# Altium schematic symbol library EFM32GG_Library.SchLib: 40 symbols (part 2 of 5)
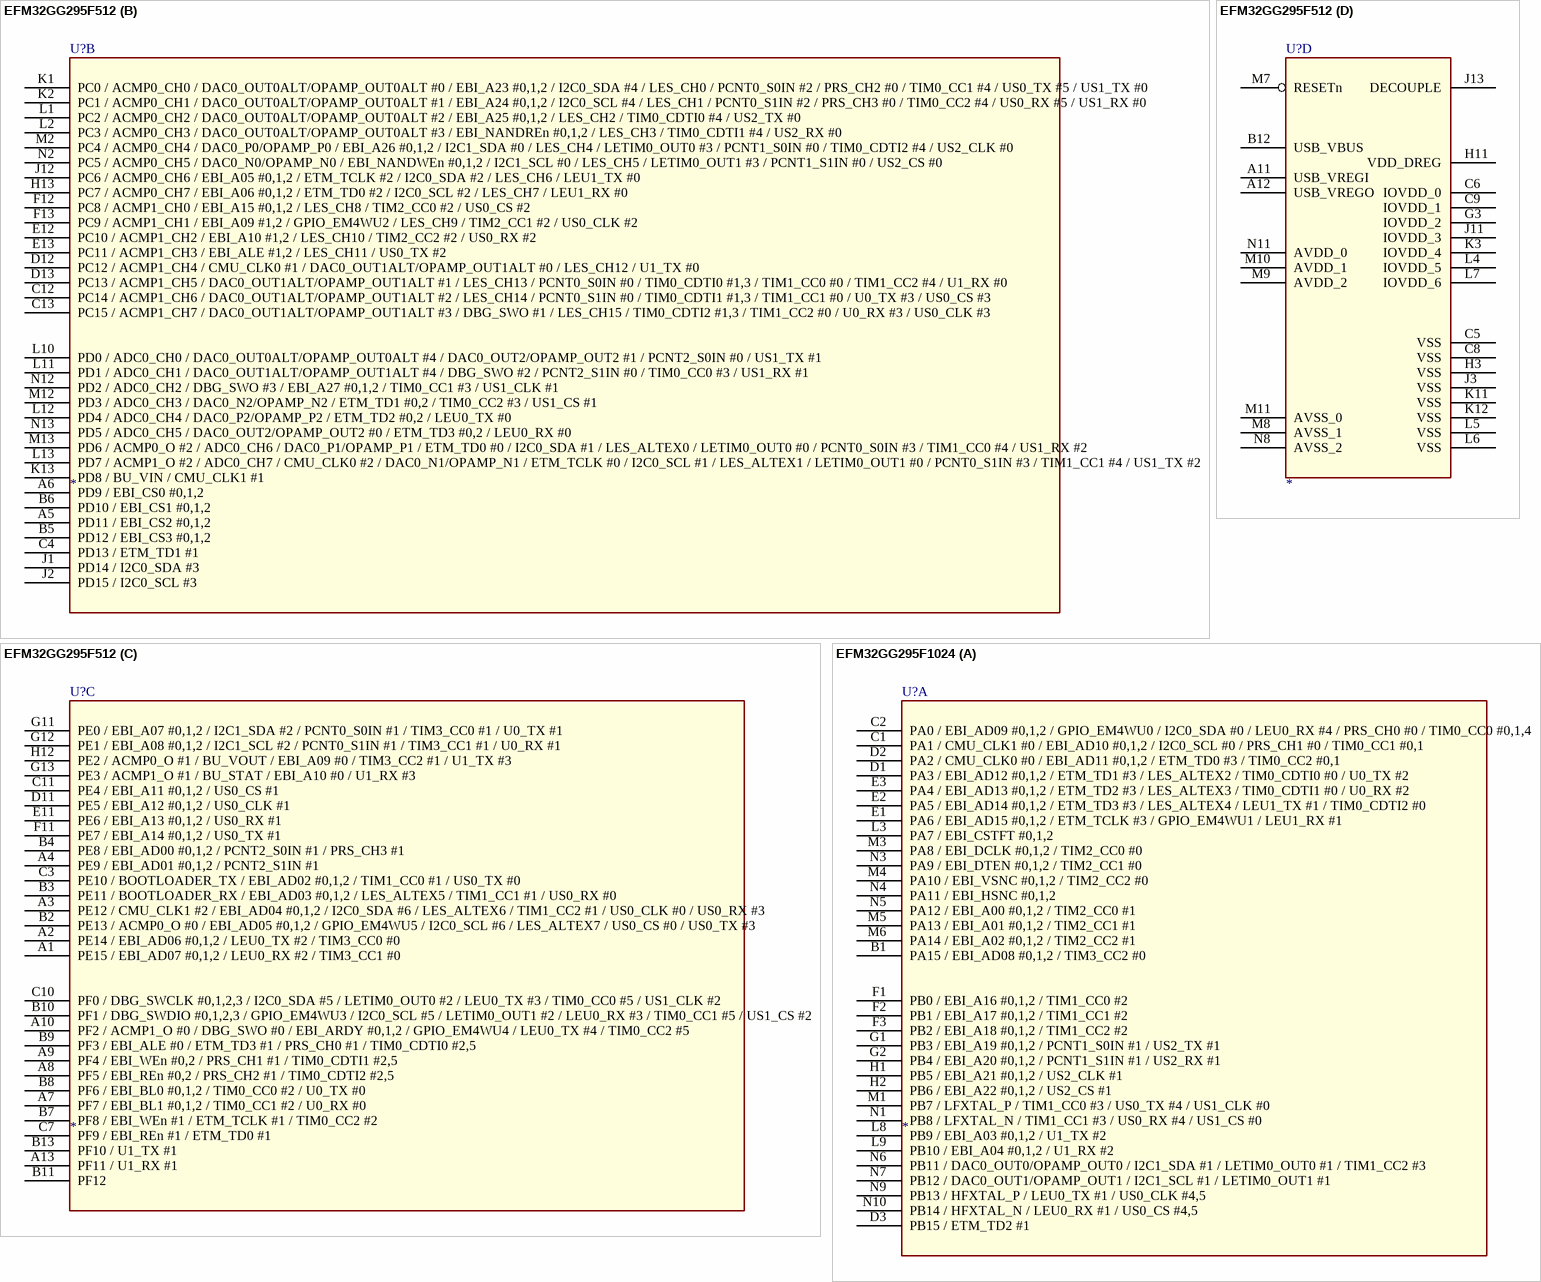
[diagram p40: symbols EFM32GG295F512 to EFM32GG295F1024]

## EFM32GG295F512
designator U?
part A pins: B1 PA15 / EBI_AD08 #0,1,2 / TIM3_CC2 #0, C1 PA1 / CMU_CLK1 #0 / EBI_AD10 #0,1,2 / I2C0_SCL #0 / PRS_CH1 #0 / TIM0_CC1 #0,1, C2 PA0 / EBI_AD09 #0,1,2 / GPIO_EM4WU0 / I2C0_SDA #0 / LEU0_RX #4 / PRS_CH0 #0 / TIM0_CC0 #0,1,4, D1 PA3 / EBI_AD12 #0,1,2 / ETM_TD1 #3 / LES_ALTEX2 / TIM0_CDTI0 #0 / U0_TX #2, D2 PA2 / CMU_CLK0 #0 / EBI_AD11 #0,1,2 / ETM_TD0 #3 / TIM0_CC2 #0,1, D3 PB15 / ETM_TD2 #1, E1 PA6 / EBI_AD15 #0,1,2 / ETM_TCLK #3 / GPIO_EM4WU1 / LEU1_RX #1, E2 PA5 / EBI_AD14 #0,1,2 / ETM_TD3 #3 / LES_ALTEX4 / LEU1_TX #1 / TIM0_CDTI2 #0, E3 PA4 / EBI_AD13 #0,1,2 / ETM_TD2 #3 / LES_ALTEX3 / TIM0_CDTI1 #0 / U0_RX #2, F1 PB0 / EBI_A16 #0,1,2 / TIM1_CC0 #2, F2 PB1 / EBI_A17 #0,1,2 / TIM1_CC1 #2, F3 PB2 / EBI_A18 #0,1,2 / TIM1_CC2 #2, G1 PB3 / EBI_A19 #0,1,2 / PCNT1_S0IN #1 / US2_TX #1, G2 PB4 / EBI_A20 #0,1,2 / PCNT1_S1IN #1 / US2_RX #1, H1 PB5 / EBI_A21 #0,1,2 / US2_CLK #1, H2 PB6 / EBI_A22 #0,1,2 / US2_CS #1, L3 PA7 / EBI_CSTFT #0,1,2, L8 PB9 / EBI_A03 #0,1,2 / U1_TX #2, L9 PB10 / EBI_A04 #0,1,2 / U1_RX #2, M1 PB7 / LFXTAL_P / TIM1_CC0 #3 / US0_TX #4 / US1_CLK #0, M3 PA8 / EBI_DCLK #0,1,2 / TIM2_CC0 #0, M4 PA10 / EBI_VSNC #0,1,2 / TIM2_CC2 #0, M5 PA13 / EBI_A01 #0,1,2 / TIM2_CC1 #1, M6 PA14 / EBI_A02 #0,1,2 / TIM2_CC2 #1, N1 PB8 / LFXTAL_N / TIM1_CC1 #3 / US0_RX #4 / US1_CS #0, N3 PA9 / EBI_DTEN #0,1,2 / TIM2_CC1 #0, N4 PA11 / EBI_HSNC #0,1,2, N5 PA12 / EBI_A00 #0,1,2 / TIM2_CC0 #1, N6 PB11 / DAC0_OUT0/OPAMP_OUT0 / I2C1_SDA #1 / LETIM0_OUT0 #1 / TIM1_CC2 #3, N7 PB12 / DAC0_OUT1/OPAMP_OUT1 / I2C1_SCL #1 / LETIM0_OUT1 #1, N9 PB13 / HFXTAL_P / LEU0_TX #1 / US0_CLK #4,5, N10 PB14 / HFXTAL_N / LEU0_RX #1 / US0_CS #4,5
part B pins: A5 PD11 / EBI_CS2 #0,1,2, A6 PD9 / EBI_CS0 #0,1,2, B5 PD12 / EBI_CS3 #0,1,2, B6 PD10 / EBI_CS1 #0,1,2, C4 PD13 / ETM_TD1 #1, C12 PC14 / ACMP1_CH6 / DAC0_OUT1ALT/OPAMP_OUT1ALT #2 / LES_CH14 / PCNT0_S1IN #0 / TIM0_CDTI1 #1,3 / TIM1_CC1 #0 / U0_TX #3 / US0_CS #3, C13 PC15 / ACMP1_CH7 / DAC0_OUT1ALT/OPAMP_OUT1ALT #3 / DBG_SWO #1 / LES_CH15 / TIM0_CDTI2 #1,3 / TIM1_CC2 #0 / U0_RX #3 / US0_CLK #3, D12 PC12 / ACMP1_CH4 / CMU_CLK0 #1 / DAC0_OUT1ALT/OPAMP_OUT1ALT #0 / LES_CH12 / U1_TX #0, D13 PC13 / ACMP1_CH5 / DAC0_OUT1ALT/OPAMP_OUT1ALT #1 / LES_CH13 / PCNT0_S0IN #0 / TIM0_CDTI0 #1,3 / TIM1_CC0 #0 / TIM1_CC2 #4 / U1_RX #0, E12 PC10 / ACMP1_CH2 / EBI_A10 #1,2 / LES_CH10 / TIM2_CC2 #2 / US0_RX #2, E13 PC11 / ACMP1_CH3 / EBI_ALE #1,2 / LES_CH11 / US0_TX #2, F12 PC8 / ACMP1_CH0 / EBI_A15 #0,1,2 / LES_CH8 / TIM2_CC0 #2 / US0_CS #2, F13 PC9 / ACMP1_CH1 / EBI_A09 #1,2 / GPIO_EM4WU2 / LES_CH9 / TIM2_CC1 #2 / US0_CLK #2, H13 PC7 / ACMP0_CH7 / EBI_A06 #0,1,2 / ETM_TD0 #2 / I2C0_SCL #2 / LES_CH7 / LEU1_RX #0, J1 PD14 / I2C0_SDA #3, J2 PD15 / I2C0_SCL #3, J12 PC6 / ACMP0_CH6 / EBI_A05 #0,1,2 / ETM_TCLK #2 / I2C0_SDA #2 / LES_CH6 / LEU1_TX #0, K1 PC0 / ACMP0_CH0 / DAC0_OUT0ALT/OPAMP_OUT0ALT #0 / EBI_A23 #0,1,2 / I2C0_SDA #4 / LES_CH0 / PCNT0_S0IN #2 / PRS_CH2 #0 / TIM0_CC1 #4 / US0_TX #5 / US1_TX #0, K2 PC1 / ACMP0_CH1 / DAC0_OUT0ALT/OPAMP_OUT0ALT #1 / EBI_A24 #0,1,2 / I2C0_SCL #4 / LES_CH1 / PCNT0_S1IN #2 / PRS_CH3 #0 / TIM0_CC2 #4 / US0_RX #5 / US1_RX #0, K13 PD8 / BU_VIN / CMU_CLK1 #1, L1 PC2 / ACMP0_CH2 / DAC0_OUT0ALT/OPAMP_OUT0ALT #2 / EBI_A25 #0,1,2 / LES_CH2 / TIM0_CDTI0 #4 / US2_TX #0, L2 PC3 / ACMP0_CH3 / DAC0_OUT0ALT/OPAMP_OUT0ALT #3 / EBI_NANDREn #0,1,2 / LES_CH3 / TIM0_CDTI1 #4 / US2_RX #0, L10 PD0 / ADC0_CH0 / DAC0_OUT0ALT/OPAMP_OUT0ALT #4 / DAC0_OUT2/OPAMP_OUT2 #1 / PCNT2_S0IN #0 / US1_TX #1, L11 PD1 / ADC0_CH1 / DAC0_OUT1ALT/OPAMP_OUT1ALT #4 / DBG_SWO #2 / PCNT2_S1IN #0 / TIM0_CC0 #3 / US1_RX #1, L12 PD4 / ADC0_CH4 / DAC0_P2/OPAMP_P2 / ETM_TD2 #0,2 / LEU0_TX #0, L13 PD7 / ACMP1_O #2 / ADC0_CH7 / CMU_CLK0 #2 / DAC0_N1/OPAMP_N1 / ETM_TCLK #0 / I2C0_SCL #1 / LES_ALTEX1 / LETIM0_OUT1 #0 / PCNT0_S1IN #3 / TIM1_CC1 #4 / US1_TX #2, M2 PC4 / ACMP0_CH4 / DAC0_P0/OPAMP_P0 / EBI_A26 #0,1,2 / I2C1_SDA #0 / LES_CH4 / LETIM0_OUT0 #3 / PCNT1_S0IN #0 / TIM0_CDTI2 #4 / US2_CLK #0, M12 PD3 / ADC0_CH3 / DAC0_N2/OPAMP_N2 / ETM_TD1 #0,2 / TIM0_CC2 #3 / US1_CS #1, M13 PD6 / ACMP0_O #2 / ADC0_CH6 / DAC0_P1/OPAMP_P1 / ETM_TD0 #0 / I2C0_SDA #1 / LES_ALTEX0 / LETIM0_OUT0 #0 / PCNT0_S0IN #3 / TIM1_CC0 #4 / US1_RX #2, N2 PC5 / ACMP0_CH5 / DAC0_N0/OPAMP_N0 / EBI_NANDWEn #0,1,2 / I2C1_SCL #0 / LES_CH5 / LETIM0_OUT1 #3 / PCNT1_S1IN #0 / US2_CS #0, N12 PD2 / ADC0_CH2 / DBG_SWO #3 / EBI_A27 #0,1,2 / TIM0_CC1 #3 / US1_CLK #1, N13 PD5 / ADC0_CH5 / DAC0_OUT2/OPAMP_OUT2 #0 / ETM_TD3 #0,2 / LEU0_RX #0
part C pins: A1 PE15 / EBI_AD07 #0,1,2 / LEU0_RX #2 / TIM3_CC1 #0, A2 PE14 / EBI_AD06 #0,1,2 / LEU0_TX #2 / TIM3_CC0 #0, A3 PE12 / CMU_CLK1 #2 / EBI_AD04 #0,1,2 / I2C0_SDA #6 / LES_ALTEX6 / TIM1_CC2 #1 / US0_CLK #0 / US0_RX #3, A4 PE9 / EBI_AD01 #0,1,2 / PCNT2_S1IN #1, A7 PF7 / EBI_BL1 #0,1,2 / TIM0_CC1 #2 / U0_RX #0, A8 PF5 / EBI_REn #0,2 / PRS_CH2 #1 / TIM0_CDTI2 #2,5, A9 PF4 / EBI_WEn #0,2 / PRS_CH1 #1 / TIM0_CDTI1 #2,5, A10 PF2 / ACMP1_O #0 / DBG_SWO #0 / EBI_ARDY #0,1,2 / GPIO_EM4WU4 / LEU0_TX #4 / TIM0_CC2 #5, A13 PF11 / U1_RX #1, B2 PE13 / ACMP0_O #0 / EBI_AD05 #0,1,2 / GPIO_EM4WU5 / I2C0_SCL #6 / LES_ALTEX7 / US0_CS #0 / US0_TX #3, B3 PE11 / BOOTLOADER_RX / EBI_AD03 #0,1,2 / LES_ALTEX5 / TIM1_CC1 #1 / US0_RX #0, B4 PE8 / EBI_AD00 #0,1,2 / PCNT2_S0IN #1 / PRS_CH3 #1, B7 PF8 / EBI_WEn #1 / ETM_TCLK #1 / TIM0_CC2 #2, B8 PF6 / EBI_BL0 #0,1,2 / TIM0_CC0 #2 / U0_TX #0, B9 PF3 / EBI_ALE #0 / ETM_TD3 #1 / PRS_CH0 #1 / TIM0_CDTI0 #2,5, B10 PF1 / DBG_SWDIO #0,1,2,3 / GPIO_EM4WU3 / I2C0_SCL #5 / LETIM0_OUT1 #2 / LEU0_RX #3 / TIM0_CC1 #5 / US1_CS #2, B11 PF12, B13 PF10 / U1_TX #1, C3 PE10 / BOOTLOADER_TX / EBI_AD02 #0,1,2 / TIM1_CC0 #1 / US0_TX #0, C7 PF9 / EBI_REn #1 / ETM_TD0 #1, C10 PF0 / DBG_SWCLK #0,1,2,3 / I2C0_SDA #5 / LETIM0_OUT0 #2 / LEU0_TX #3 / TIM0_CC0 #5 / US1_CLK #2, C11 PE4 / EBI_A11 #0,1,2 / US0_CS #1, D11 PE5 / EBI_A12 #0,1,2 / US0_CLK #1, E11 PE6 / EBI_A13 #0,1,2 / US0_RX #1, F11 PE7 / EBI_A14 #0,1,2 / US0_TX #1, G11 PE0 / EBI_A07 #0,1,2 / I2C1_SDA #2 / PCNT0_S0IN #1 / TIM3_CC0 #1 / U0_TX #1, G12 PE1 / EBI_A08 #0,1,2 / I2C1_SCL #2 / PCNT0_S1IN #1 / TIM3_CC1 #1 / U0_RX #1, G13 PE3 / ACMP1_O #1 / BU_STAT / EBI_A10 #0 / U1_RX #3, H12 PE2 / ACMP0_O #1 / BU_VOUT / EBI_A09 #0 / TIM3_CC2 #1 / U1_TX #3
part D pins: A11 USB_VREGI (power), A12 USB_VREGO (power), B12 USB_VBUS (power), C5 VSS (power), C6 IOVDD_0 (power), C8 VSS (power), C9 IOVDD_1 (power), G3 IOVDD_2 (power), H3 VSS (power), H11 VDD_DREG (power), J3 VSS (power), J11 IOVDD_3 (power), J13 DECOUPLE (power), K3 IOVDD_4 (power), K11 VSS (power), K12 VSS (power), L4 IOVDD_5 (power), L5 VSS (power), L6 VSS (power), L7 IOVDD_6 (power), M7 RESETn, M8 AVSS_1 (power), M9 AVDD_2 (power), M10 AVDD_1 (power), M11 AVSS_0 (power), N8 AVSS_2 (power), N11 AVDD_0 (power)

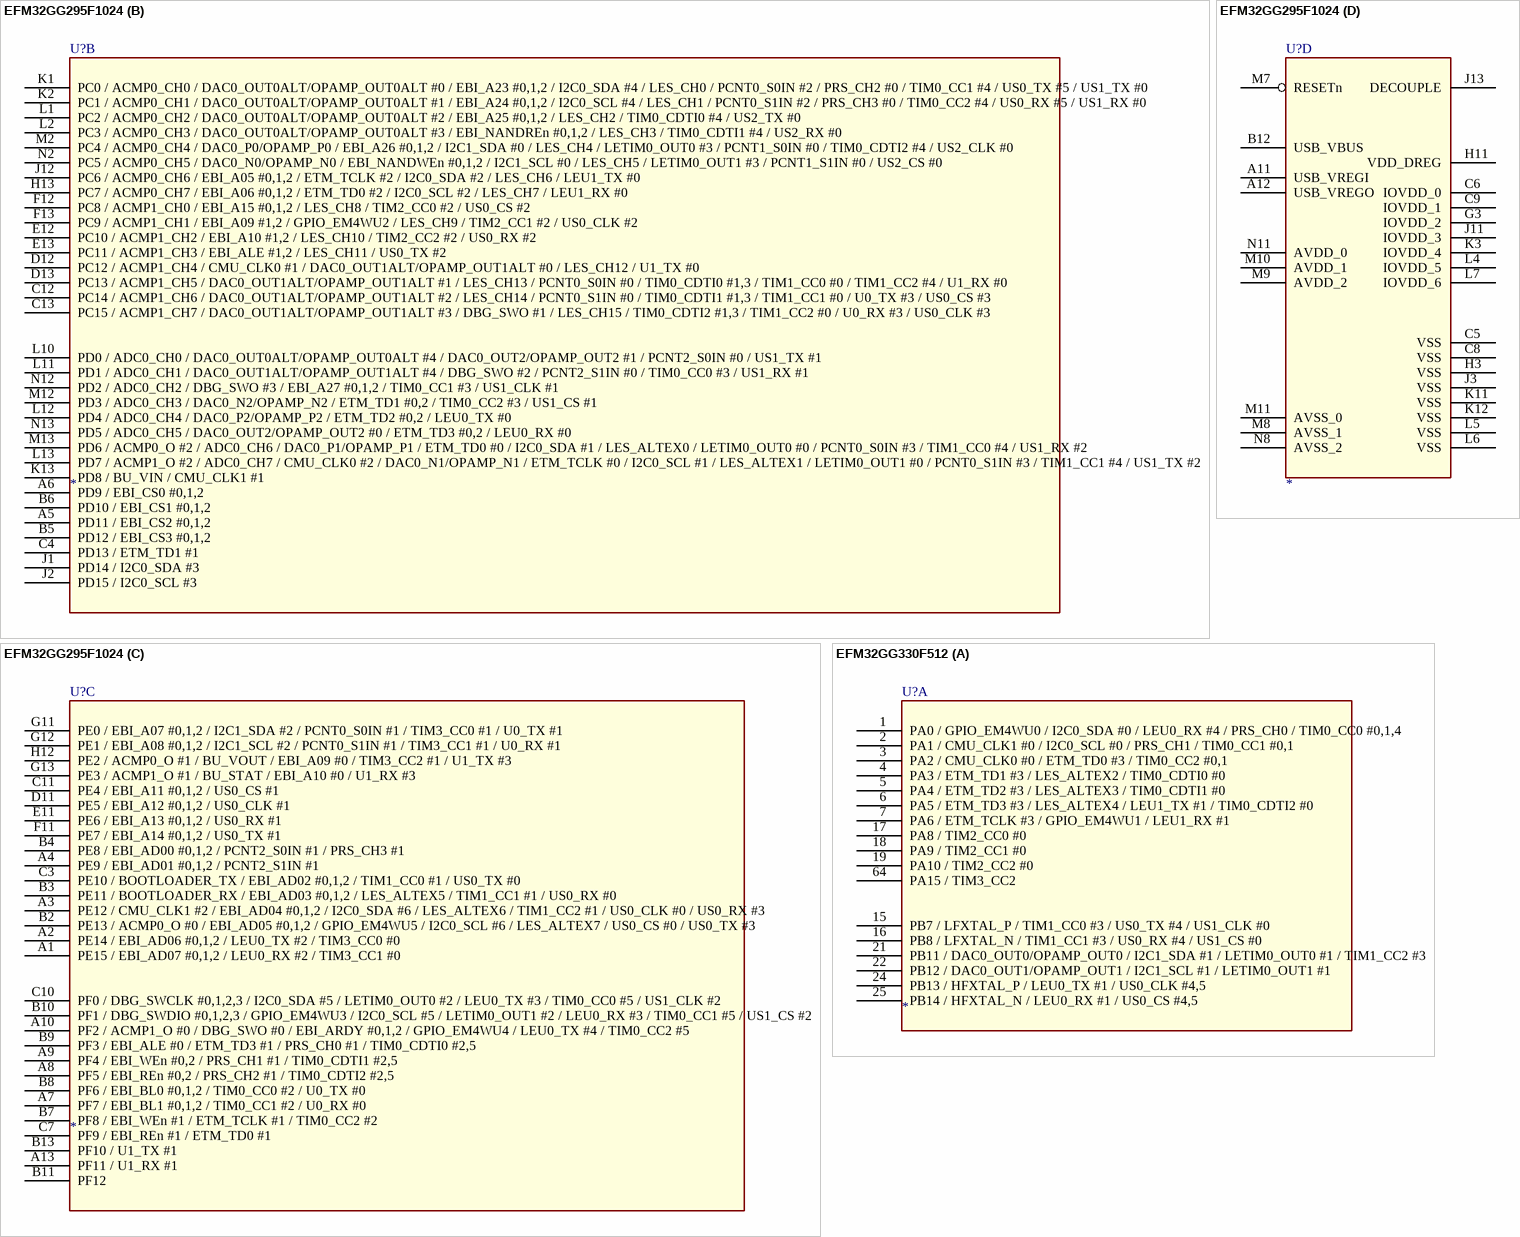
[diagram p9: symbols EFM32GG295F1024 to EFM32GG330F512]

## EFM32GG295F1024
designator U?
part A pins: B1 PA15 / EBI_AD08 #0,1,2 / TIM3_CC2 #0, C1 PA1 / CMU_CLK1 #0 / EBI_AD10 #0,1,2 / I2C0_SCL #0 / PRS_CH1 #0 / TIM0_CC1 #0,1, C2 PA0 / EBI_AD09 #0,1,2 / GPIO_EM4WU0 / I2C0_SDA #0 / LEU0_RX #4 / PRS_CH0 #0 / TIM0_CC0 #0,1,4, D1 PA3 / EBI_AD12 #0,1,2 / ETM_TD1 #3 / LES_ALTEX2 / TIM0_CDTI0 #0 / U0_TX #2, D2 PA2 / CMU_CLK0 #0 / EBI_AD11 #0,1,2 / ETM_TD0 #3 / TIM0_CC2 #0,1, D3 PB15 / ETM_TD2 #1, E1 PA6 / EBI_AD15 #0,1,2 / ETM_TCLK #3 / GPIO_EM4WU1 / LEU1_RX #1, E2 PA5 / EBI_AD14 #0,1,2 / ETM_TD3 #3 / LES_ALTEX4 / LEU1_TX #1 / TIM0_CDTI2 #0, E3 PA4 / EBI_AD13 #0,1,2 / ETM_TD2 #3 / LES_ALTEX3 / TIM0_CDTI1 #0 / U0_RX #2, F1 PB0 / EBI_A16 #0,1,2 / TIM1_CC0 #2, F2 PB1 / EBI_A17 #0,1,2 / TIM1_CC1 #2, F3 PB2 / EBI_A18 #0,1,2 / TIM1_CC2 #2, G1 PB3 / EBI_A19 #0,1,2 / PCNT1_S0IN #1 / US2_TX #1, G2 PB4 / EBI_A20 #0,1,2 / PCNT1_S1IN #1 / US2_RX #1, H1 PB5 / EBI_A21 #0,1,2 / US2_CLK #1, H2 PB6 / EBI_A22 #0,1,2 / US2_CS #1, L3 PA7 / EBI_CSTFT #0,1,2, L8 PB9 / EBI_A03 #0,1,2 / U1_TX #2, L9 PB10 / EBI_A04 #0,1,2 / U1_RX #2, M1 PB7 / LFXTAL_P / TIM1_CC0 #3 / US0_TX #4 / US1_CLK #0, M3 PA8 / EBI_DCLK #0,1,2 / TIM2_CC0 #0, M4 PA10 / EBI_VSNC #0,1,2 / TIM2_CC2 #0, M5 PA13 / EBI_A01 #0,1,2 / TIM2_CC1 #1, M6 PA14 / EBI_A02 #0,1,2 / TIM2_CC2 #1, N1 PB8 / LFXTAL_N / TIM1_CC1 #3 / US0_RX #4 / US1_CS #0, N3 PA9 / EBI_DTEN #0,1,2 / TIM2_CC1 #0, N4 PA11 / EBI_HSNC #0,1,2, N5 PA12 / EBI_A00 #0,1,2 / TIM2_CC0 #1, N6 PB11 / DAC0_OUT0/OPAMP_OUT0 / I2C1_SDA #1 / LETIM0_OUT0 #1 / TIM1_CC2 #3, N7 PB12 / DAC0_OUT1/OPAMP_OUT1 / I2C1_SCL #1 / LETIM0_OUT1 #1, N9 PB13 / HFXTAL_P / LEU0_TX #1 / US0_CLK #4,5, N10 PB14 / HFXTAL_N / LEU0_RX #1 / US0_CS #4,5
part B pins: A5 PD11 / EBI_CS2 #0,1,2, A6 PD9 / EBI_CS0 #0,1,2, B5 PD12 / EBI_CS3 #0,1,2, B6 PD10 / EBI_CS1 #0,1,2, C4 PD13 / ETM_TD1 #1, C12 PC14 / ACMP1_CH6 / DAC0_OUT1ALT/OPAMP_OUT1ALT #2 / LES_CH14 / PCNT0_S1IN #0 / TIM0_CDTI1 #1,3 / TIM1_CC1 #0 / U0_TX #3 / US0_CS #3, C13 PC15 / ACMP1_CH7 / DAC0_OUT1ALT/OPAMP_OUT1ALT #3 / DBG_SWO #1 / LES_CH15 / TIM0_CDTI2 #1,3 / TIM1_CC2 #0 / U0_RX #3 / US0_CLK #3, D12 PC12 / ACMP1_CH4 / CMU_CLK0 #1 / DAC0_OUT1ALT/OPAMP_OUT1ALT #0 / LES_CH12 / U1_TX #0, D13 PC13 / ACMP1_CH5 / DAC0_OUT1ALT/OPAMP_OUT1ALT #1 / LES_CH13 / PCNT0_S0IN #0 / TIM0_CDTI0 #1,3 / TIM1_CC0 #0 / TIM1_CC2 #4 / U1_RX #0, E12 PC10 / ACMP1_CH2 / EBI_A10 #1,2 / LES_CH10 / TIM2_CC2 #2 / US0_RX #2, E13 PC11 / ACMP1_CH3 / EBI_ALE #1,2 / LES_CH11 / US0_TX #2, F12 PC8 / ACMP1_CH0 / EBI_A15 #0,1,2 / LES_CH8 / TIM2_CC0 #2 / US0_CS #2, F13 PC9 / ACMP1_CH1 / EBI_A09 #1,2 / GPIO_EM4WU2 / LES_CH9 / TIM2_CC1 #2 / US0_CLK #2, H13 PC7 / ACMP0_CH7 / EBI_A06 #0,1,2 / ETM_TD0 #2 / I2C0_SCL #2 / LES_CH7 / LEU1_RX #0, J1 PD14 / I2C0_SDA #3, J2 PD15 / I2C0_SCL #3, J12 PC6 / ACMP0_CH6 / EBI_A05 #0,1,2 / ETM_TCLK #2 / I2C0_SDA #2 / LES_CH6 / LEU1_TX #0, K1 PC0 / ACMP0_CH0 / DAC0_OUT0ALT/OPAMP_OUT0ALT #0 / EBI_A23 #0,1,2 / I2C0_SDA #4 / LES_CH0 / PCNT0_S0IN #2 / PRS_CH2 #0 / TIM0_CC1 #4 / US0_TX #5 / US1_TX #0, K2 PC1 / ACMP0_CH1 / DAC0_OUT0ALT/OPAMP_OUT0ALT #1 / EBI_A24 #0,1,2 / I2C0_SCL #4 / LES_CH1 / PCNT0_S1IN #2 / PRS_CH3 #0 / TIM0_CC2 #4 / US0_RX #5 / US1_RX #0, K13 PD8 / BU_VIN / CMU_CLK1 #1, L1 PC2 / ACMP0_CH2 / DAC0_OUT0ALT/OPAMP_OUT0ALT #2 / EBI_A25 #0,1,2 / LES_CH2 / TIM0_CDTI0 #4 / US2_TX #0, L2 PC3 / ACMP0_CH3 / DAC0_OUT0ALT/OPAMP_OUT0ALT #3 / EBI_NANDREn #0,1,2 / LES_CH3 / TIM0_CDTI1 #4 / US2_RX #0, L10 PD0 / ADC0_CH0 / DAC0_OUT0ALT/OPAMP_OUT0ALT #4 / DAC0_OUT2/OPAMP_OUT2 #1 / PCNT2_S0IN #0 / US1_TX #1, L11 PD1 / ADC0_CH1 / DAC0_OUT1ALT/OPAMP_OUT1ALT #4 / DBG_SWO #2 / PCNT2_S1IN #0 / TIM0_CC0 #3 / US1_RX #1, L12 PD4 / ADC0_CH4 / DAC0_P2/OPAMP_P2 / ETM_TD2 #0,2 / LEU0_TX #0, L13 PD7 / ACMP1_O #2 / ADC0_CH7 / CMU_CLK0 #2 / DAC0_N1/OPAMP_N1 / ETM_TCLK #0 / I2C0_SCL #1 / LES_ALTEX1 / LETIM0_OUT1 #0 / PCNT0_S1IN #3 / TIM1_CC1 #4 / US1_TX #2, M2 PC4 / ACMP0_CH4 / DAC0_P0/OPAMP_P0 / EBI_A26 #0,1,2 / I2C1_SDA #0 / LES_CH4 / LETIM0_OUT0 #3 / PCNT1_S0IN #0 / TIM0_CDTI2 #4 / US2_CLK #0, M12 PD3 / ADC0_CH3 / DAC0_N2/OPAMP_N2 / ETM_TD1 #0,2 / TIM0_CC2 #3 / US1_CS #1, M13 PD6 / ACMP0_O #2 / ADC0_CH6 / DAC0_P1/OPAMP_P1 / ETM_TD0 #0 / I2C0_SDA #1 / LES_ALTEX0 / LETIM0_OUT0 #0 / PCNT0_S0IN #3 / TIM1_CC0 #4 / US1_RX #2, N2 PC5 / ACMP0_CH5 / DAC0_N0/OPAMP_N0 / EBI_NANDWEn #0,1,2 / I2C1_SCL #0 / LES_CH5 / LETIM0_OUT1 #3 / PCNT1_S1IN #0 / US2_CS #0, N12 PD2 / ADC0_CH2 / DBG_SWO #3 / EBI_A27 #0,1,2 / TIM0_CC1 #3 / US1_CLK #1, N13 PD5 / ADC0_CH5 / DAC0_OUT2/OPAMP_OUT2 #0 / ETM_TD3 #0,2 / LEU0_RX #0
part C pins: A1 PE15 / EBI_AD07 #0,1,2 / LEU0_RX #2 / TIM3_CC1 #0, A2 PE14 / EBI_AD06 #0,1,2 / LEU0_TX #2 / TIM3_CC0 #0, A3 PE12 / CMU_CLK1 #2 / EBI_AD04 #0,1,2 / I2C0_SDA #6 / LES_ALTEX6 / TIM1_CC2 #1 / US0_CLK #0 / US0_RX #3, A4 PE9 / EBI_AD01 #0,1,2 / PCNT2_S1IN #1, A7 PF7 / EBI_BL1 #0,1,2 / TIM0_CC1 #2 / U0_RX #0, A8 PF5 / EBI_REn #0,2 / PRS_CH2 #1 / TIM0_CDTI2 #2,5, A9 PF4 / EBI_WEn #0,2 / PRS_CH1 #1 / TIM0_CDTI1 #2,5, A10 PF2 / ACMP1_O #0 / DBG_SWO #0 / EBI_ARDY #0,1,2 / GPIO_EM4WU4 / LEU0_TX #4 / TIM0_CC2 #5, A13 PF11 / U1_RX #1, B2 PE13 / ACMP0_O #0 / EBI_AD05 #0,1,2 / GPIO_EM4WU5 / I2C0_SCL #6 / LES_ALTEX7 / US0_CS #0 / US0_TX #3, B3 PE11 / BOOTLOADER_RX / EBI_AD03 #0,1,2 / LES_ALTEX5 / TIM1_CC1 #1 / US0_RX #0, B4 PE8 / EBI_AD00 #0,1,2 / PCNT2_S0IN #1 / PRS_CH3 #1, B7 PF8 / EBI_WEn #1 / ETM_TCLK #1 / TIM0_CC2 #2, B8 PF6 / EBI_BL0 #0,1,2 / TIM0_CC0 #2 / U0_TX #0, B9 PF3 / EBI_ALE #0 / ETM_TD3 #1 / PRS_CH0 #1 / TIM0_CDTI0 #2,5, B10 PF1 / DBG_SWDIO #0,1,2,3 / GPIO_EM4WU3 / I2C0_SCL #5 / LETIM0_OUT1 #2 / LEU0_RX #3 / TIM0_CC1 #5 / US1_CS #2, B11 PF12, B13 PF10 / U1_TX #1, C3 PE10 / BOOTLOADER_TX / EBI_AD02 #0,1,2 / TIM1_CC0 #1 / US0_TX #0, C7 PF9 / EBI_REn #1 / ETM_TD0 #1, C10 PF0 / DBG_SWCLK #0,1,2,3 / I2C0_SDA #5 / LETIM0_OUT0 #2 / LEU0_TX #3 / TIM0_CC0 #5 / US1_CLK #2, C11 PE4 / EBI_A11 #0,1,2 / US0_CS #1, D11 PE5 / EBI_A12 #0,1,2 / US0_CLK #1, E11 PE6 / EBI_A13 #0,1,2 / US0_RX #1, F11 PE7 / EBI_A14 #0,1,2 / US0_TX #1, G11 PE0 / EBI_A07 #0,1,2 / I2C1_SDA #2 / PCNT0_S0IN #1 / TIM3_CC0 #1 / U0_TX #1, G12 PE1 / EBI_A08 #0,1,2 / I2C1_SCL #2 / PCNT0_S1IN #1 / TIM3_CC1 #1 / U0_RX #1, G13 PE3 / ACMP1_O #1 / BU_STAT / EBI_A10 #0 / U1_RX #3, H12 PE2 / ACMP0_O #1 / BU_VOUT / EBI_A09 #0 / TIM3_CC2 #1 / U1_TX #3
part D pins: A11 USB_VREGI (power), A12 USB_VREGO (power), B12 USB_VBUS (power), C5 VSS (power), C6 IOVDD_0 (power), C8 VSS (power), C9 IOVDD_1 (power), G3 IOVDD_2 (power), H3 VSS (power), H11 VDD_DREG (power), J3 VSS (power), J11 IOVDD_3 (power), J13 DECOUPLE (power), K3 IOVDD_4 (power), K11 VSS (power), K12 VSS (power), L4 IOVDD_5 (power), L5 VSS (power), L6 VSS (power), L7 IOVDD_6 (power), M7 RESETn, M8 AVSS_1 (power), M9 AVDD_2 (power), M10 AVDD_1 (power), M11 AVSS_0 (power), N8 AVSS_2 (power), N11 AVDD_0 (power)

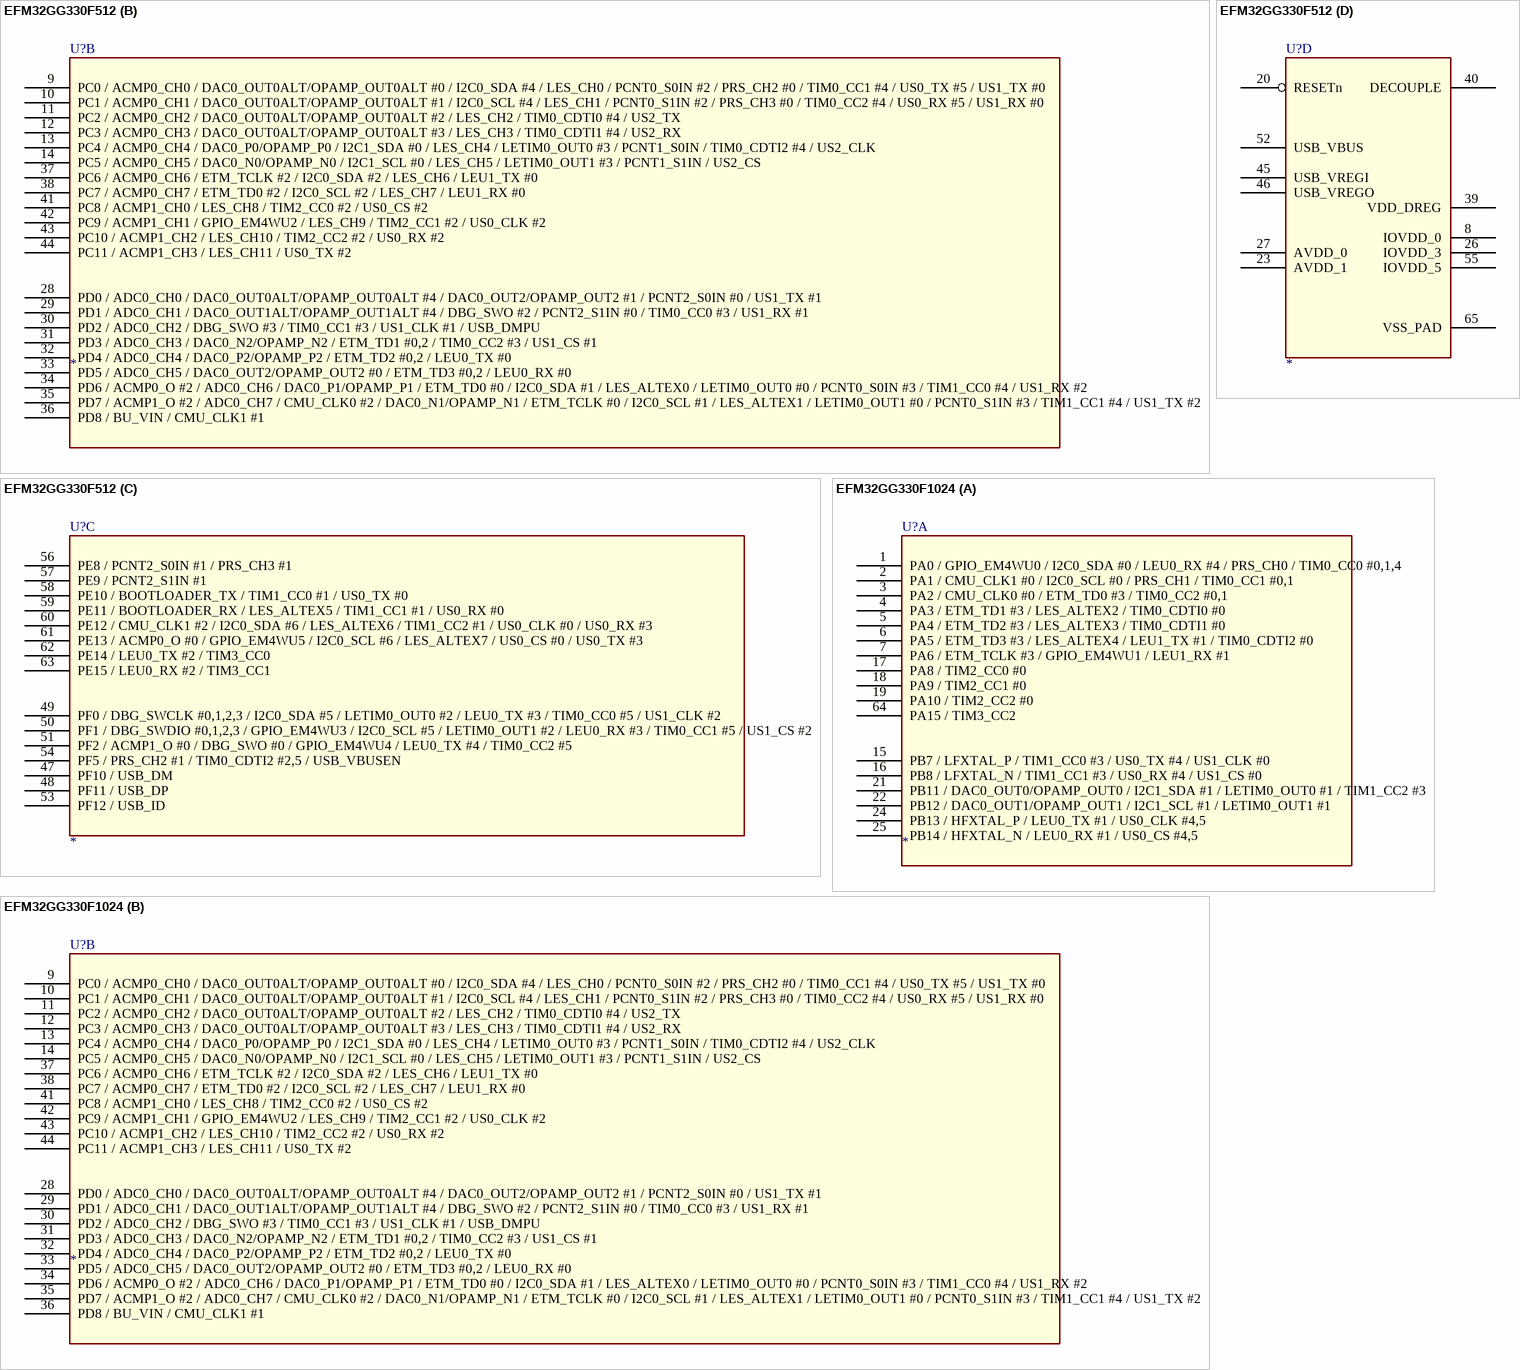
[diagram p10: symbols EFM32GG330F512 to EFM32GG330F1024]

## EFM32GG330F512
designator U?
part A pins: 1 PA0 / GPIO_EM4WU0 / I2C0_SDA #0 / LEU0_RX #4 / PRS_CH0 / TIM0_CC0 #0,1,4, 2 PA1 / CMU_CLK1 #0 / I2C0_SCL #0 / PRS_CH1 / TIM0_CC1 #0,1, 3 PA2 / CMU_CLK0 #0 / ETM_TD0 #3 / TIM0_CC2 #0,1, 4 PA3 / ETM_TD1 #3 / LES_ALTEX2 / TIM0_CDTI0 #0, 5 PA4 / ETM_TD2 #3 / LES_ALTEX3 / TIM0_CDTI1 #0, 6 PA5 / ETM_TD3 #3 / LES_ALTEX4 / LEU1_TX #1 / TIM0_CDTI2 #0, 7 PA6 / ETM_TCLK #3 / GPIO_EM4WU1 / LEU1_RX #1, 15 PB7 / LFXTAL_P / TIM1_CC0 #3 / US0_TX #4 / US1_CLK #0, 16 PB8 / LFXTAL_N / TIM1_CC1 #3 / US0_RX #4 / US1_CS #0, 17 PA8 / TIM2_CC0 #0, 18 PA9 / TIM2_CC1 #0, 19 PA10 / TIM2_CC2 #0, 21 PB11 / DAC0_OUT0/OPAMP_OUT0 / I2C1_SDA #1 / LETIM0_OUT0 #1 / TIM1_CC2 #3, 22 PB12 / DAC0_OUT1/OPAMP_OUT1 / I2C1_SCL #1 / LETIM0_OUT1 #1, 24 PB13 / HFXTAL_P / LEU0_TX #1 / US0_CLK #4,5, 25 PB14 / HFXTAL_N / LEU0_RX #1 / US0_CS #4,5, 64 PA15 / TIM3_CC2
part B pins: 9 PC0 / ACMP0_CH0 / DAC0_OUT0ALT/OPAMP_OUT0ALT #0 / I2C0_SDA #4 / LES_CH0 / PCNT0_S0IN #2 / PRS_CH2 #0 / TIM0_CC1 #4 / US0_TX #5 / US1_TX #0, 10 PC1 / ACMP0_CH1 / DAC0_OUT0ALT/OPAMP_OUT0ALT #1 / I2C0_SCL #4 / LES_CH1 / PCNT0_S1IN #2 / PRS_CH3 #0 / TIM0_CC2 #4 / US0_RX #5 / US1_RX #0, 11 PC2 / ACMP0_CH2 / DAC0_OUT0ALT/OPAMP_OUT0ALT #2 / LES_CH2 / TIM0_CDTI0 #4 / US2_TX, 12 PC3 / ACMP0_CH3 / DAC0_OUT0ALT/OPAMP_OUT0ALT #3 / LES_CH3 / TIM0_CDTI1 #4 / US2_RX, 13 PC4 / ACMP0_CH4 / DAC0_P0/OPAMP_P0 / I2C1_SDA #0 / LES_CH4 / LETIM0_OUT0 #3 / PCNT1_S0IN / TIM0_CDTI2 #4 / US2_CLK, 14 PC5 / ACMP0_CH5 / DAC0_N0/OPAMP_N0 / I2C1_SCL #0 / LES_CH5 / LETIM0_OUT1 #3 / PCNT1_S1IN / US2_CS, 28 PD0 / ADC0_CH0 / DAC0_OUT0ALT/OPAMP_OUT0ALT #4 / DAC0_OUT2/OPAMP_OUT2 #1 / PCNT2_S0IN #0 / US1_TX #1, 29 PD1 / ADC0_CH1 / DAC0_OUT1ALT/OPAMP_OUT1ALT #4 / DBG_SWO #2 / PCNT2_S1IN #0 / TIM0_CC0 #3 / US1_RX #1, 30 PD2 / ADC0_CH2 / DBG_SWO #3 / TIM0_CC1 #3 / US1_CLK #1 / USB_DMPU, 31 PD3 / ADC0_CH3 / DAC0_N2/OPAMP_N2 / ETM_TD1 #0,2 / TIM0_CC2 #3 / US1_CS #1, 32 PD4 / ADC0_CH4 / DAC0_P2/OPAMP_P2 / ETM_TD2 #0,2 / LEU0_TX #0, 33 PD5 / ADC0_CH5 / DAC0_OUT2/OPAMP_OUT2 #0 / ETM_TD3 #0,2 / LEU0_RX #0, 34 PD6 / ACMP0_O #2 / ADC0_CH6 / DAC0_P1/OPAMP_P1 / ETM_TD0 #0 / I2C0_SDA #1 / LES_ALTEX0 / LETIM0_OUT0 #0 / PCNT0_S0IN #3 / TIM1_CC0 #4 / US1_RX #2, 35 PD7 / ACMP1_O #2 / ADC0_CH7 / CMU_CLK0 #2 / DAC0_N1/OPAMP_N1 / ETM_TCLK #0 / I2C0_SCL #1 / LES_ALTEX1 / LETIM0_OUT1 #0 / PCNT0_S1IN #3 / TIM1_CC1 #4 / US1_TX #2, 36 PD8 / BU_VIN / CMU_CLK1 #1, 37 PC6 / ACMP0_CH6 / ETM_TCLK #2 / I2C0_SDA #2 / LES_CH6 / LEU1_TX #0, 38 PC7 / ACMP0_CH7 / ETM_TD0 #2 / I2C0_SCL #2 / LES_CH7 / LEU1_RX #0, 41 PC8 / ACMP1_CH0 / LES_CH8 / TIM2_CC0 #2 / US0_CS #2, 42 PC9 / ACMP1_CH1 / GPIO_EM4WU2 / LES_CH9 / TIM2_CC1 #2 / US0_CLK #2, 43 PC10 / ACMP1_CH2 / LES_CH10 / TIM2_CC2 #2 / US0_RX #2, 44 PC11 / ACMP1_CH3 / LES_CH11 / US0_TX #2
part C pins: 47 PF10 / USB_DM, 48 PF11 / USB_DP, 49 PF0 / DBG_SWCLK #0,1,2,3 / I2C0_SDA #5 / LETIM0_OUT0 #2 / LEU0_TX #3 / TIM0_CC0 #5 / US1_CLK #2, 50 PF1 / DBG_SWDIO #0,1,2,3 / GPIO_EM4WU3 / I2C0_SCL #5 / LETIM0_OUT1 #2 / LEU0_RX #3 / TIM0_CC1 #5 / US1_CS #2, 51 PF2 / ACMP1_O #0 / DBG_SWO #0 / GPIO_EM4WU4 / LEU0_TX #4 / TIM0_CC2 #5, 53 PF12 / USB_ID, 54 PF5 / PRS_CH2 #1 / TIM0_CDTI2 #2,5 / USB_VBUSEN, 56 PE8 / PCNT2_S0IN #1 / PRS_CH3 #1, 57 PE9 / PCNT2_S1IN #1, 58 PE10 / BOOTLOADER_TX / TIM1_CC0 #1 / US0_TX #0, 59 PE11 / BOOTLOADER_RX / LES_ALTEX5 / TIM1_CC1 #1 / US0_RX #0, 60 PE12 / CMU_CLK1 #2 / I2C0_SDA #6 / LES_ALTEX6 / TIM1_CC2 #1 / US0_CLK #0 / US0_RX #3, 61 PE13 / ACMP0_O #0 / GPIO_EM4WU5 / I2C0_SCL #6 / LES_ALTEX7 / US0_CS #0 / US0_TX #3, 62 PE14 / LEU0_TX #2 / TIM3_CC0, 63 PE15 / LEU0_RX #2 / TIM3_CC1
part D pins: 8 IOVDD_0 (power), 20 RESETn, 23 AVDD_1 (power), 26 IOVDD_3 (power), 27 AVDD_0 (power), 39 VDD_DREG (power), 40 DECOUPLE (power), 45 USB_VREGI (power), 46 USB_VREGO (power), 52 USB_VBUS (power), 55 IOVDD_5 (power), 65 VSS_PAD (power)

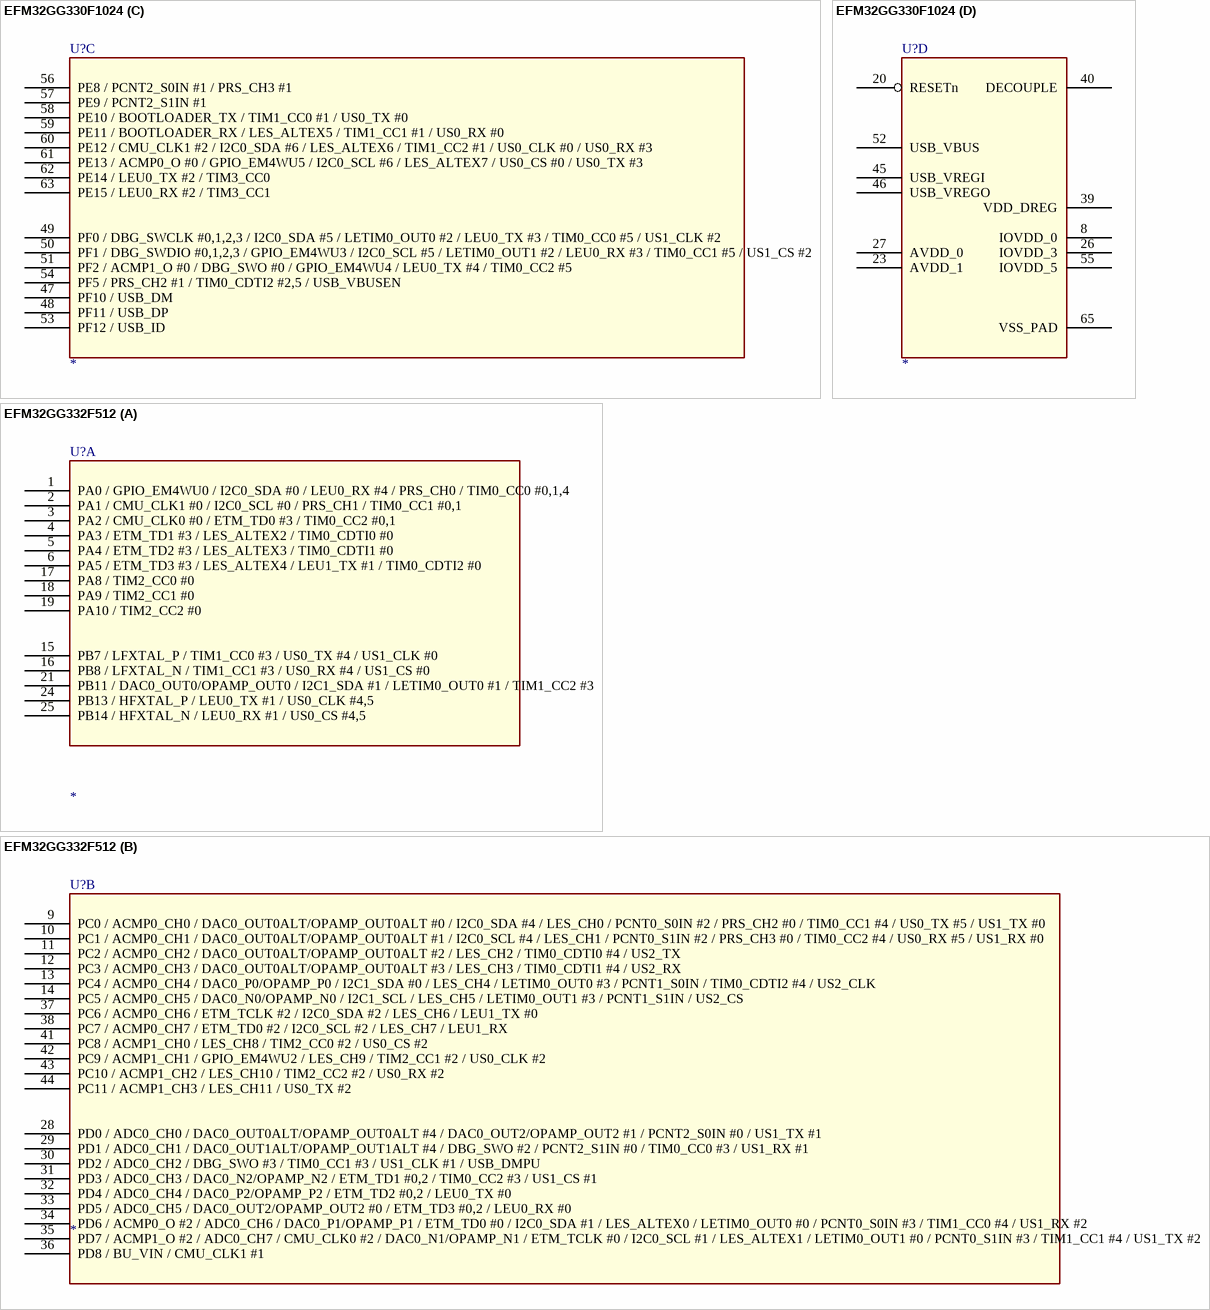
[diagram p11: symbols EFM32GG330F1024 to EFM32GG332F512]

## EFM32GG330F1024
designator U?
part A pins: 1 PA0 / GPIO_EM4WU0 / I2C0_SDA #0 / LEU0_RX #4 / PRS_CH0 / TIM0_CC0 #0,1,4, 2 PA1 / CMU_CLK1 #0 / I2C0_SCL #0 / PRS_CH1 / TIM0_CC1 #0,1, 3 PA2 / CMU_CLK0 #0 / ETM_TD0 #3 / TIM0_CC2 #0,1, 4 PA3 / ETM_TD1 #3 / LES_ALTEX2 / TIM0_CDTI0 #0, 5 PA4 / ETM_TD2 #3 / LES_ALTEX3 / TIM0_CDTI1 #0, 6 PA5 / ETM_TD3 #3 / LES_ALTEX4 / LEU1_TX #1 / TIM0_CDTI2 #0, 7 PA6 / ETM_TCLK #3 / GPIO_EM4WU1 / LEU1_RX #1, 15 PB7 / LFXTAL_P / TIM1_CC0 #3 / US0_TX #4 / US1_CLK #0, 16 PB8 / LFXTAL_N / TIM1_CC1 #3 / US0_RX #4 / US1_CS #0, 17 PA8 / TIM2_CC0 #0, 18 PA9 / TIM2_CC1 #0, 19 PA10 / TIM2_CC2 #0, 21 PB11 / DAC0_OUT0/OPAMP_OUT0 / I2C1_SDA #1 / LETIM0_OUT0 #1 / TIM1_CC2 #3, 22 PB12 / DAC0_OUT1/OPAMP_OUT1 / I2C1_SCL #1 / LETIM0_OUT1 #1, 24 PB13 / HFXTAL_P / LEU0_TX #1 / US0_CLK #4,5, 25 PB14 / HFXTAL_N / LEU0_RX #1 / US0_CS #4,5, 64 PA15 / TIM3_CC2
part B pins: 9 PC0 / ACMP0_CH0 / DAC0_OUT0ALT/OPAMP_OUT0ALT #0 / I2C0_SDA #4 / LES_CH0 / PCNT0_S0IN #2 / PRS_CH2 #0 / TIM0_CC1 #4 / US0_TX #5 / US1_TX #0, 10 PC1 / ACMP0_CH1 / DAC0_OUT0ALT/OPAMP_OUT0ALT #1 / I2C0_SCL #4 / LES_CH1 / PCNT0_S1IN #2 / PRS_CH3 #0 / TIM0_CC2 #4 / US0_RX #5 / US1_RX #0, 11 PC2 / ACMP0_CH2 / DAC0_OUT0ALT/OPAMP_OUT0ALT #2 / LES_CH2 / TIM0_CDTI0 #4 / US2_TX, 12 PC3 / ACMP0_CH3 / DAC0_OUT0ALT/OPAMP_OUT0ALT #3 / LES_CH3 / TIM0_CDTI1 #4 / US2_RX, 13 PC4 / ACMP0_CH4 / DAC0_P0/OPAMP_P0 / I2C1_SDA #0 / LES_CH4 / LETIM0_OUT0 #3 / PCNT1_S0IN / TIM0_CDTI2 #4 / US2_CLK, 14 PC5 / ACMP0_CH5 / DAC0_N0/OPAMP_N0 / I2C1_SCL #0 / LES_CH5 / LETIM0_OUT1 #3 / PCNT1_S1IN / US2_CS, 28 PD0 / ADC0_CH0 / DAC0_OUT0ALT/OPAMP_OUT0ALT #4 / DAC0_OUT2/OPAMP_OUT2 #1 / PCNT2_S0IN #0 / US1_TX #1, 29 PD1 / ADC0_CH1 / DAC0_OUT1ALT/OPAMP_OUT1ALT #4 / DBG_SWO #2 / PCNT2_S1IN #0 / TIM0_CC0 #3 / US1_RX #1, 30 PD2 / ADC0_CH2 / DBG_SWO #3 / TIM0_CC1 #3 / US1_CLK #1 / USB_DMPU, 31 PD3 / ADC0_CH3 / DAC0_N2/OPAMP_N2 / ETM_TD1 #0,2 / TIM0_CC2 #3 / US1_CS #1, 32 PD4 / ADC0_CH4 / DAC0_P2/OPAMP_P2 / ETM_TD2 #0,2 / LEU0_TX #0, 33 PD5 / ADC0_CH5 / DAC0_OUT2/OPAMP_OUT2 #0 / ETM_TD3 #0,2 / LEU0_RX #0, 34 PD6 / ACMP0_O #2 / ADC0_CH6 / DAC0_P1/OPAMP_P1 / ETM_TD0 #0 / I2C0_SDA #1 / LES_ALTEX0 / LETIM0_OUT0 #0 / PCNT0_S0IN #3 / TIM1_CC0 #4 / US1_RX #2, 35 PD7 / ACMP1_O #2 / ADC0_CH7 / CMU_CLK0 #2 / DAC0_N1/OPAMP_N1 / ETM_TCLK #0 / I2C0_SCL #1 / LES_ALTEX1 / LETIM0_OUT1 #0 / PCNT0_S1IN #3 / TIM1_CC1 #4 / US1_TX #2, 36 PD8 / BU_VIN / CMU_CLK1 #1, 37 PC6 / ACMP0_CH6 / ETM_TCLK #2 / I2C0_SDA #2 / LES_CH6 / LEU1_TX #0, 38 PC7 / ACMP0_CH7 / ETM_TD0 #2 / I2C0_SCL #2 / LES_CH7 / LEU1_RX #0, 41 PC8 / ACMP1_CH0 / LES_CH8 / TIM2_CC0 #2 / US0_CS #2, 42 PC9 / ACMP1_CH1 / GPIO_EM4WU2 / LES_CH9 / TIM2_CC1 #2 / US0_CLK #2, 43 PC10 / ACMP1_CH2 / LES_CH10 / TIM2_CC2 #2 / US0_RX #2, 44 PC11 / ACMP1_CH3 / LES_CH11 / US0_TX #2
part C pins: 47 PF10 / USB_DM, 48 PF11 / USB_DP, 49 PF0 / DBG_SWCLK #0,1,2,3 / I2C0_SDA #5 / LETIM0_OUT0 #2 / LEU0_TX #3 / TIM0_CC0 #5 / US1_CLK #2, 50 PF1 / DBG_SWDIO #0,1,2,3 / GPIO_EM4WU3 / I2C0_SCL #5 / LETIM0_OUT1 #2 / LEU0_RX #3 / TIM0_CC1 #5 / US1_CS #2, 51 PF2 / ACMP1_O #0 / DBG_SWO #0 / GPIO_EM4WU4 / LEU0_TX #4 / TIM0_CC2 #5, 53 PF12 / USB_ID, 54 PF5 / PRS_CH2 #1 / TIM0_CDTI2 #2,5 / USB_VBUSEN, 56 PE8 / PCNT2_S0IN #1 / PRS_CH3 #1, 57 PE9 / PCNT2_S1IN #1, 58 PE10 / BOOTLOADER_TX / TIM1_CC0 #1 / US0_TX #0, 59 PE11 / BOOTLOADER_RX / LES_ALTEX5 / TIM1_CC1 #1 / US0_RX #0, 60 PE12 / CMU_CLK1 #2 / I2C0_SDA #6 / LES_ALTEX6 / TIM1_CC2 #1 / US0_CLK #0 / US0_RX #3, 61 PE13 / ACMP0_O #0 / GPIO_EM4WU5 / I2C0_SCL #6 / LES_ALTEX7 / US0_CS #0 / US0_TX #3, 62 PE14 / LEU0_TX #2 / TIM3_CC0, 63 PE15 / LEU0_RX #2 / TIM3_CC1
part D pins: 8 IOVDD_0 (power), 20 RESETn, 23 AVDD_1 (power), 26 IOVDD_3 (power), 27 AVDD_0 (power), 39 VDD_DREG (power), 40 DECOUPLE (power), 45 USB_VREGI (power), 46 USB_VREGO (power), 52 USB_VBUS (power), 55 IOVDD_5 (power), 65 VSS_PAD (power)

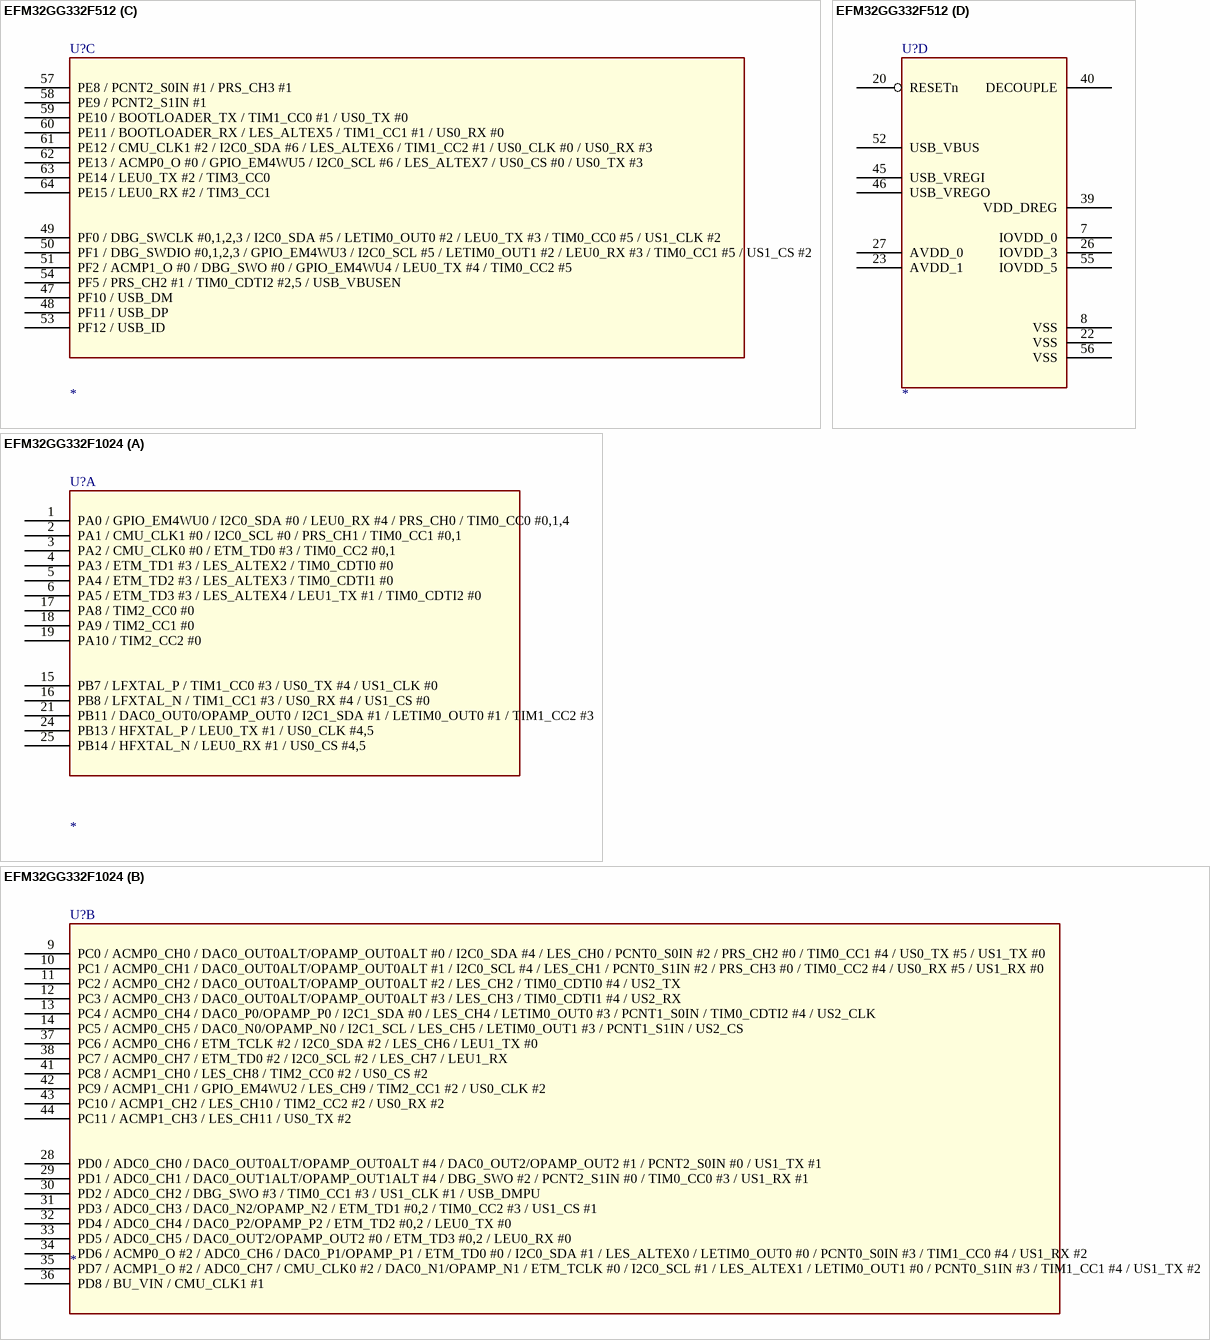
[diagram p12: symbols EFM32GG332F512 to EFM32GG332F1024]

## EFM32GG332F512
designator U?
part A pins: 1 PA0 / GPIO_EM4WU0 / I2C0_SDA #0 / LEU0_RX #4 / PRS_CH0 / TIM0_CC0 #0,1,4, 2 PA1 / CMU_CLK1 #0 / I2C0_SCL #0 / PRS_CH1 / TIM0_CC1 #0,1, 3 PA2 / CMU_CLK0 #0 / ETM_TD0 #3 / TIM0_CC2 #0,1, 4 PA3 / ETM_TD1 #3 / LES_ALTEX2 / TIM0_CDTI0 #0, 5 PA4 / ETM_TD2 #3 / LES_ALTEX3 / TIM0_CDTI1 #0, 6 PA5 / ETM_TD3 #3 / LES_ALTEX4 / LEU1_TX #1 / TIM0_CDTI2 #0, 15 PB7 / LFXTAL_P / TIM1_CC0 #3 / US0_TX #4 / US1_CLK #0, 16 PB8 / LFXTAL_N / TIM1_CC1 #3 / US0_RX #4 / US1_CS #0, 17 PA8 / TIM2_CC0 #0, 18 PA9 / TIM2_CC1 #0, 19 PA10 / TIM2_CC2 #0, 21 PB11 / DAC0_OUT0/OPAMP_OUT0 / I2C1_SDA #1 / LETIM0_OUT0 #1 / TIM1_CC2 #3, 24 PB13 / HFXTAL_P / LEU0_TX #1 / US0_CLK #4,5, 25 PB14 / HFXTAL_N / LEU0_RX #1 / US0_CS #4,5
part B pins: 9 PC0 / ACMP0_CH0 / DAC0_OUT0ALT/OPAMP_OUT0ALT #0 / I2C0_SDA #4 / LES_CH0 / PCNT0_S0IN #2 / PRS_CH2 #0 / TIM0_CC1 #4 / US0_TX #5 / US1_TX #0, 10 PC1 / ACMP0_CH1 / DAC0_OUT0ALT/OPAMP_OUT0ALT #1 / I2C0_SCL #4 / LES_CH1 / PCNT0_S1IN #2 / PRS_CH3 #0 / TIM0_CC2 #4 / US0_RX #5 / US1_RX #0, 11 PC2 / ACMP0_CH2 / DAC0_OUT0ALT/OPAMP_OUT0ALT #2 / LES_CH2 / TIM0_CDTI0 #4 / US2_TX, 12 PC3 / ACMP0_CH3 / DAC0_OUT0ALT/OPAMP_OUT0ALT #3 / LES_CH3 / TIM0_CDTI1 #4 / US2_RX, 13 PC4 / ACMP0_CH4 / DAC0_P0/OPAMP_P0 / I2C1_SDA #0 / LES_CH4 / LETIM0_OUT0 #3 / PCNT1_S0IN / TIM0_CDTI2 #4 / US2_CLK, 14 PC5 / ACMP0_CH5 / DAC0_N0/OPAMP_N0 / I2C1_SCL / LES_CH5 / LETIM0_OUT1 #3 / PCNT1_S1IN / US2_CS, 28 PD0 / ADC0_CH0 / DAC0_OUT0ALT/OPAMP_OUT0ALT #4 / DAC0_OUT2/OPAMP_OUT2 #1 / PCNT2_S0IN #0 / US1_TX #1, 29 PD1 / ADC0_CH1 / DAC0_OUT1ALT/OPAMP_OUT1ALT #4 / DBG_SWO #2 / PCNT2_S1IN #0 / TIM0_CC0 #3 / US1_RX #1, 30 PD2 / ADC0_CH2 / DBG_SWO #3 / TIM0_CC1 #3 / US1_CLK #1 / USB_DMPU, 31 PD3 / ADC0_CH3 / DAC0_N2/OPAMP_N2 / ETM_TD1 #0,2 / TIM0_CC2 #3 / US1_CS #1, 32 PD4 / ADC0_CH4 / DAC0_P2/OPAMP_P2 / ETM_TD2 #0,2 / LEU0_TX #0, 33 PD5 / ADC0_CH5 / DAC0_OUT2/OPAMP_OUT2 #0 / ETM_TD3 #0,2 / LEU0_RX #0, 34 PD6 / ACMP0_O #2 / ADC0_CH6 / DAC0_P1/OPAMP_P1 / ETM_TD0 #0 / I2C0_SDA #1 / LES_ALTEX0 / LETIM0_OUT0 #0 / PCNT0_S0IN #3 / TIM1_CC0 #4 / US1_RX #2, 35 PD7 / ACMP1_O #2 / ADC0_CH7 / CMU_CLK0 #2 / DAC0_N1/OPAMP_N1 / ETM_TCLK #0 / I2C0_SCL #1 / LES_ALTEX1 / LETIM0_OUT1 #0 / PCNT0_S1IN #3 / TIM1_CC1 #4 / US1_TX #2, 36 PD8 / BU_VIN / CMU_CLK1 #1, 37 PC6 / ACMP0_CH6 / ETM_TCLK #2 / I2C0_SDA #2 / LES_CH6 / LEU1_TX #0, 38 PC7 / ACMP0_CH7 / ETM_TD0 #2 / I2C0_SCL #2 / LES_CH7 / LEU1_RX, 41 PC8 / ACMP1_CH0 / LES_CH8 / TIM2_CC0 #2 / US0_CS #2, 42 PC9 / ACMP1_CH1 / GPIO_EM4WU2 / LES_CH9 / TIM2_CC1 #2 / US0_CLK #2, 43 PC10 / ACMP1_CH2 / LES_CH10 / TIM2_CC2 #2 / US0_RX #2, 44 PC11 / ACMP1_CH3 / LES_CH11 / US0_TX #2
part C pins: 47 PF10 / USB_DM, 48 PF11 / USB_DP, 49 PF0 / DBG_SWCLK #0,1,2,3 / I2C0_SDA #5 / LETIM0_OUT0 #2 / LEU0_TX #3 / TIM0_CC0 #5 / US1_CLK #2, 50 PF1 / DBG_SWDIO #0,1,2,3 / GPIO_EM4WU3 / I2C0_SCL #5 / LETIM0_OUT1 #2 / LEU0_RX #3 / TIM0_CC1 #5 / US1_CS #2, 51 PF2 / ACMP1_O #0 / DBG_SWO #0 / GPIO_EM4WU4 / LEU0_TX #4 / TIM0_CC2 #5, 53 PF12 / USB_ID, 54 PF5 / PRS_CH2 #1 / TIM0_CDTI2 #2,5 / USB_VBUSEN, 57 PE8 / PCNT2_S0IN #1 / PRS_CH3 #1, 58 PE9 / PCNT2_S1IN #1, 59 PE10 / BOOTLOADER_TX / TIM1_CC0 #1 / US0_TX #0, 60 PE11 / BOOTLOADER_RX / LES_ALTEX5 / TIM1_CC1 #1 / US0_RX #0, 61 PE12 / CMU_CLK1 #2 / I2C0_SDA #6 / LES_ALTEX6 / TIM1_CC2 #1 / US0_CLK #0 / US0_RX #3, 62 PE13 / ACMP0_O #0 / GPIO_EM4WU5 / I2C0_SCL #6 / LES_ALTEX7 / US0_CS #0 / US0_TX #3, 63 PE14 / LEU0_TX #2 / TIM3_CC0, 64 PE15 / LEU0_RX #2 / TIM3_CC1
part D pins: 7 IOVDD_0 (power), 8 VSS (power), 20 RESETn, 22 VSS (power), 23 AVDD_1 (power), 26 IOVDD_3 (power), 27 AVDD_0 (power), 39 VDD_DREG (power), 40 DECOUPLE (power), 45 USB_VREGI (power), 46 USB_VREGO (power), 52 USB_VBUS (power), 55 IOVDD_5 (power), 56 VSS (power)

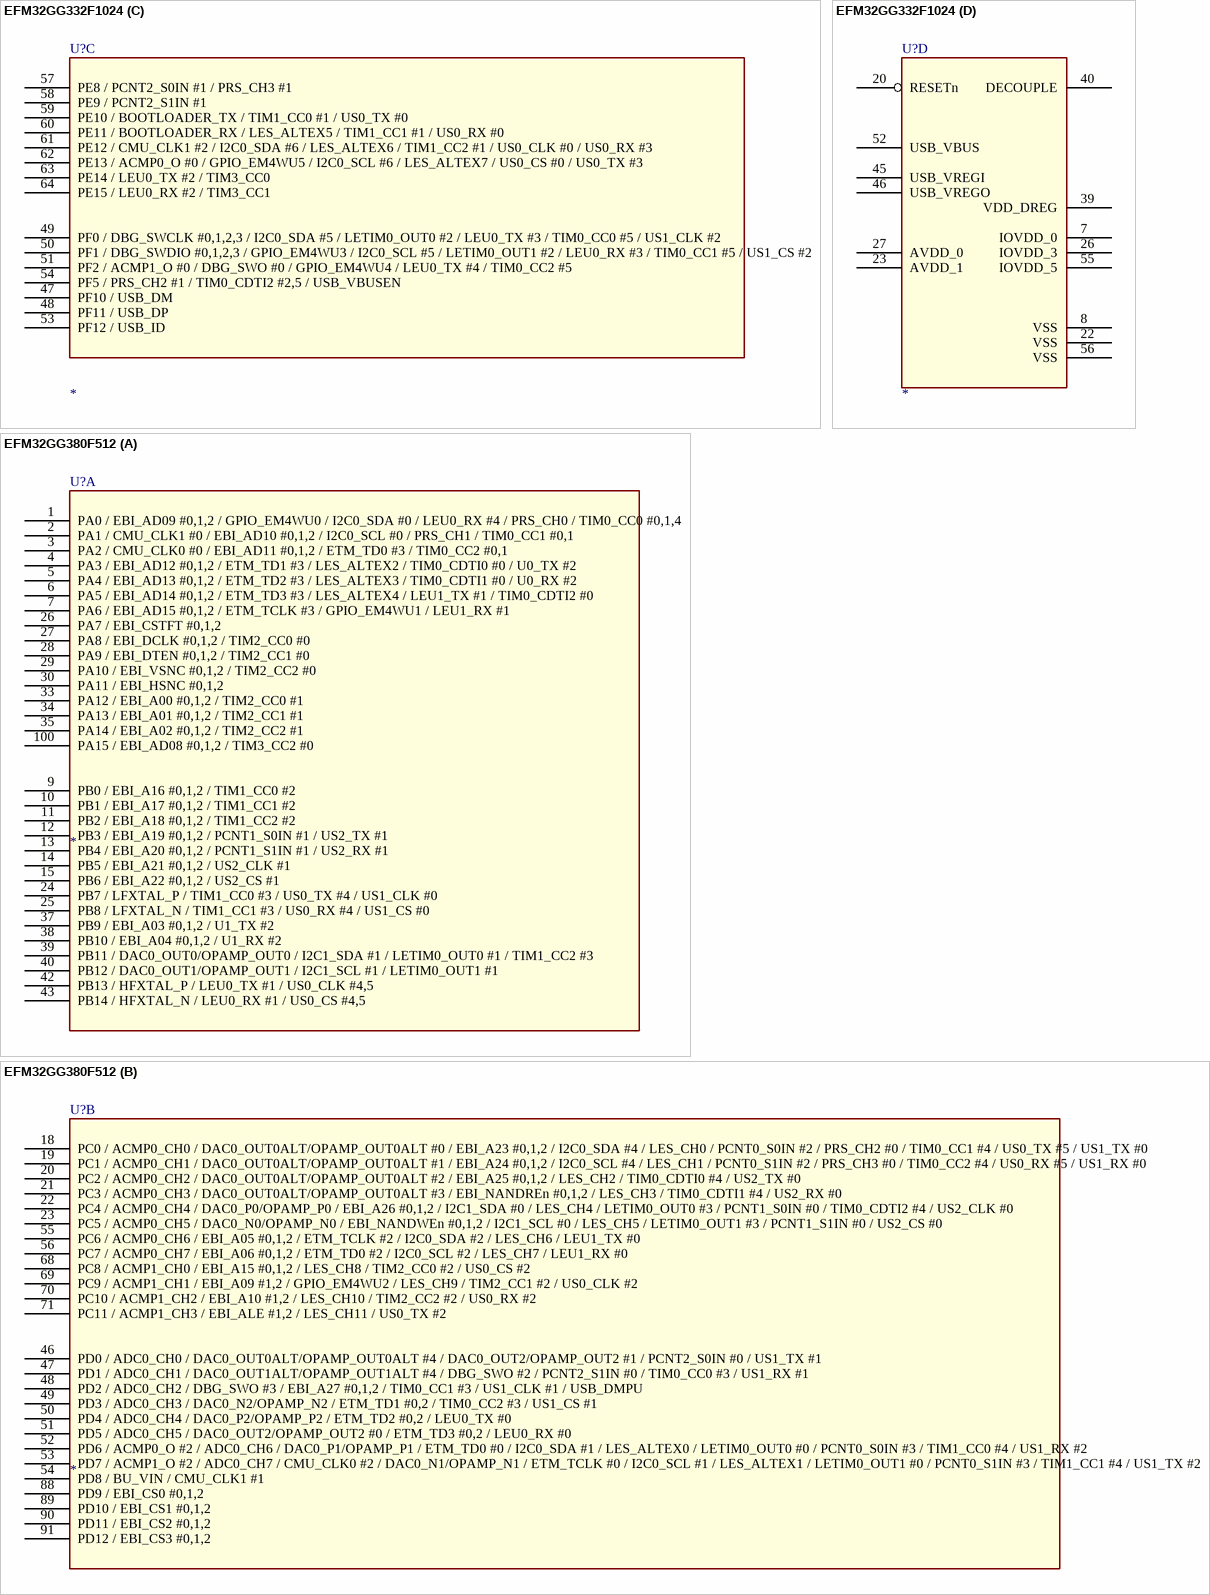
[diagram p13: symbols EFM32GG332F1024 to EFM32GG380F512]

## EFM32GG332F1024
designator U?
part A pins: 1 PA0 / GPIO_EM4WU0 / I2C0_SDA #0 / LEU0_RX #4 / PRS_CH0 / TIM0_CC0 #0,1,4, 2 PA1 / CMU_CLK1 #0 / I2C0_SCL #0 / PRS_CH1 / TIM0_CC1 #0,1, 3 PA2 / CMU_CLK0 #0 / ETM_TD0 #3 / TIM0_CC2 #0,1, 4 PA3 / ETM_TD1 #3 / LES_ALTEX2 / TIM0_CDTI0 #0, 5 PA4 / ETM_TD2 #3 / LES_ALTEX3 / TIM0_CDTI1 #0, 6 PA5 / ETM_TD3 #3 / LES_ALTEX4 / LEU1_TX #1 / TIM0_CDTI2 #0, 15 PB7 / LFXTAL_P / TIM1_CC0 #3 / US0_TX #4 / US1_CLK #0, 16 PB8 / LFXTAL_N / TIM1_CC1 #3 / US0_RX #4 / US1_CS #0, 17 PA8 / TIM2_CC0 #0, 18 PA9 / TIM2_CC1 #0, 19 PA10 / TIM2_CC2 #0, 21 PB11 / DAC0_OUT0/OPAMP_OUT0 / I2C1_SDA #1 / LETIM0_OUT0 #1 / TIM1_CC2 #3, 24 PB13 / HFXTAL_P / LEU0_TX #1 / US0_CLK #4,5, 25 PB14 / HFXTAL_N / LEU0_RX #1 / US0_CS #4,5
part B pins: 9 PC0 / ACMP0_CH0 / DAC0_OUT0ALT/OPAMP_OUT0ALT #0 / I2C0_SDA #4 / LES_CH0 / PCNT0_S0IN #2 / PRS_CH2 #0 / TIM0_CC1 #4 / US0_TX #5 / US1_TX #0, 10 PC1 / ACMP0_CH1 / DAC0_OUT0ALT/OPAMP_OUT0ALT #1 / I2C0_SCL #4 / LES_CH1 / PCNT0_S1IN #2 / PRS_CH3 #0 / TIM0_CC2 #4 / US0_RX #5 / US1_RX #0, 11 PC2 / ACMP0_CH2 / DAC0_OUT0ALT/OPAMP_OUT0ALT #2 / LES_CH2 / TIM0_CDTI0 #4 / US2_TX, 12 PC3 / ACMP0_CH3 / DAC0_OUT0ALT/OPAMP_OUT0ALT #3 / LES_CH3 / TIM0_CDTI1 #4 / US2_RX, 13 PC4 / ACMP0_CH4 / DAC0_P0/OPAMP_P0 / I2C1_SDA #0 / LES_CH4 / LETIM0_OUT0 #3 / PCNT1_S0IN / TIM0_CDTI2 #4 / US2_CLK, 14 PC5 / ACMP0_CH5 / DAC0_N0/OPAMP_N0 / I2C1_SCL / LES_CH5 / LETIM0_OUT1 #3 / PCNT1_S1IN / US2_CS, 28 PD0 / ADC0_CH0 / DAC0_OUT0ALT/OPAMP_OUT0ALT #4 / DAC0_OUT2/OPAMP_OUT2 #1 / PCNT2_S0IN #0 / US1_TX #1, 29 PD1 / ADC0_CH1 / DAC0_OUT1ALT/OPAMP_OUT1ALT #4 / DBG_SWO #2 / PCNT2_S1IN #0 / TIM0_CC0 #3 / US1_RX #1, 30 PD2 / ADC0_CH2 / DBG_SWO #3 / TIM0_CC1 #3 / US1_CLK #1 / USB_DMPU, 31 PD3 / ADC0_CH3 / DAC0_N2/OPAMP_N2 / ETM_TD1 #0,2 / TIM0_CC2 #3 / US1_CS #1, 32 PD4 / ADC0_CH4 / DAC0_P2/OPAMP_P2 / ETM_TD2 #0,2 / LEU0_TX #0, 33 PD5 / ADC0_CH5 / DAC0_OUT2/OPAMP_OUT2 #0 / ETM_TD3 #0,2 / LEU0_RX #0, 34 PD6 / ACMP0_O #2 / ADC0_CH6 / DAC0_P1/OPAMP_P1 / ETM_TD0 #0 / I2C0_SDA #1 / LES_ALTEX0 / LETIM0_OUT0 #0 / PCNT0_S0IN #3 / TIM1_CC0 #4 / US1_RX #2, 35 PD7 / ACMP1_O #2 / ADC0_CH7 / CMU_CLK0 #2 / DAC0_N1/OPAMP_N1 / ETM_TCLK #0 / I2C0_SCL #1 / LES_ALTEX1 / LETIM0_OUT1 #0 / PCNT0_S1IN #3 / TIM1_CC1 #4 / US1_TX #2, 36 PD8 / BU_VIN / CMU_CLK1 #1, 37 PC6 / ACMP0_CH6 / ETM_TCLK #2 / I2C0_SDA #2 / LES_CH6 / LEU1_TX #0, 38 PC7 / ACMP0_CH7 / ETM_TD0 #2 / I2C0_SCL #2 / LES_CH7 / LEU1_RX, 41 PC8 / ACMP1_CH0 / LES_CH8 / TIM2_CC0 #2 / US0_CS #2, 42 PC9 / ACMP1_CH1 / GPIO_EM4WU2 / LES_CH9 / TIM2_CC1 #2 / US0_CLK #2, 43 PC10 / ACMP1_CH2 / LES_CH10 / TIM2_CC2 #2 / US0_RX #2, 44 PC11 / ACMP1_CH3 / LES_CH11 / US0_TX #2
part C pins: 47 PF10 / USB_DM, 48 PF11 / USB_DP, 49 PF0 / DBG_SWCLK #0,1,2,3 / I2C0_SDA #5 / LETIM0_OUT0 #2 / LEU0_TX #3 / TIM0_CC0 #5 / US1_CLK #2, 50 PF1 / DBG_SWDIO #0,1,2,3 / GPIO_EM4WU3 / I2C0_SCL #5 / LETIM0_OUT1 #2 / LEU0_RX #3 / TIM0_CC1 #5 / US1_CS #2, 51 PF2 / ACMP1_O #0 / DBG_SWO #0 / GPIO_EM4WU4 / LEU0_TX #4 / TIM0_CC2 #5, 53 PF12 / USB_ID, 54 PF5 / PRS_CH2 #1 / TIM0_CDTI2 #2,5 / USB_VBUSEN, 57 PE8 / PCNT2_S0IN #1 / PRS_CH3 #1, 58 PE9 / PCNT2_S1IN #1, 59 PE10 / BOOTLOADER_TX / TIM1_CC0 #1 / US0_TX #0, 60 PE11 / BOOTLOADER_RX / LES_ALTEX5 / TIM1_CC1 #1 / US0_RX #0, 61 PE12 / CMU_CLK1 #2 / I2C0_SDA #6 / LES_ALTEX6 / TIM1_CC2 #1 / US0_CLK #0 / US0_RX #3, 62 PE13 / ACMP0_O #0 / GPIO_EM4WU5 / I2C0_SCL #6 / LES_ALTEX7 / US0_CS #0 / US0_TX #3, 63 PE14 / LEU0_TX #2 / TIM3_CC0, 64 PE15 / LEU0_RX #2 / TIM3_CC1
part D pins: 7 IOVDD_0 (power), 8 VSS (power), 20 RESETn, 22 VSS (power), 23 AVDD_1 (power), 26 IOVDD_3 (power), 27 AVDD_0 (power), 39 VDD_DREG (power), 40 DECOUPLE (power), 45 USB_VREGI (power), 46 USB_VREGO (power), 52 USB_VBUS (power), 55 IOVDD_5 (power), 56 VSS (power)

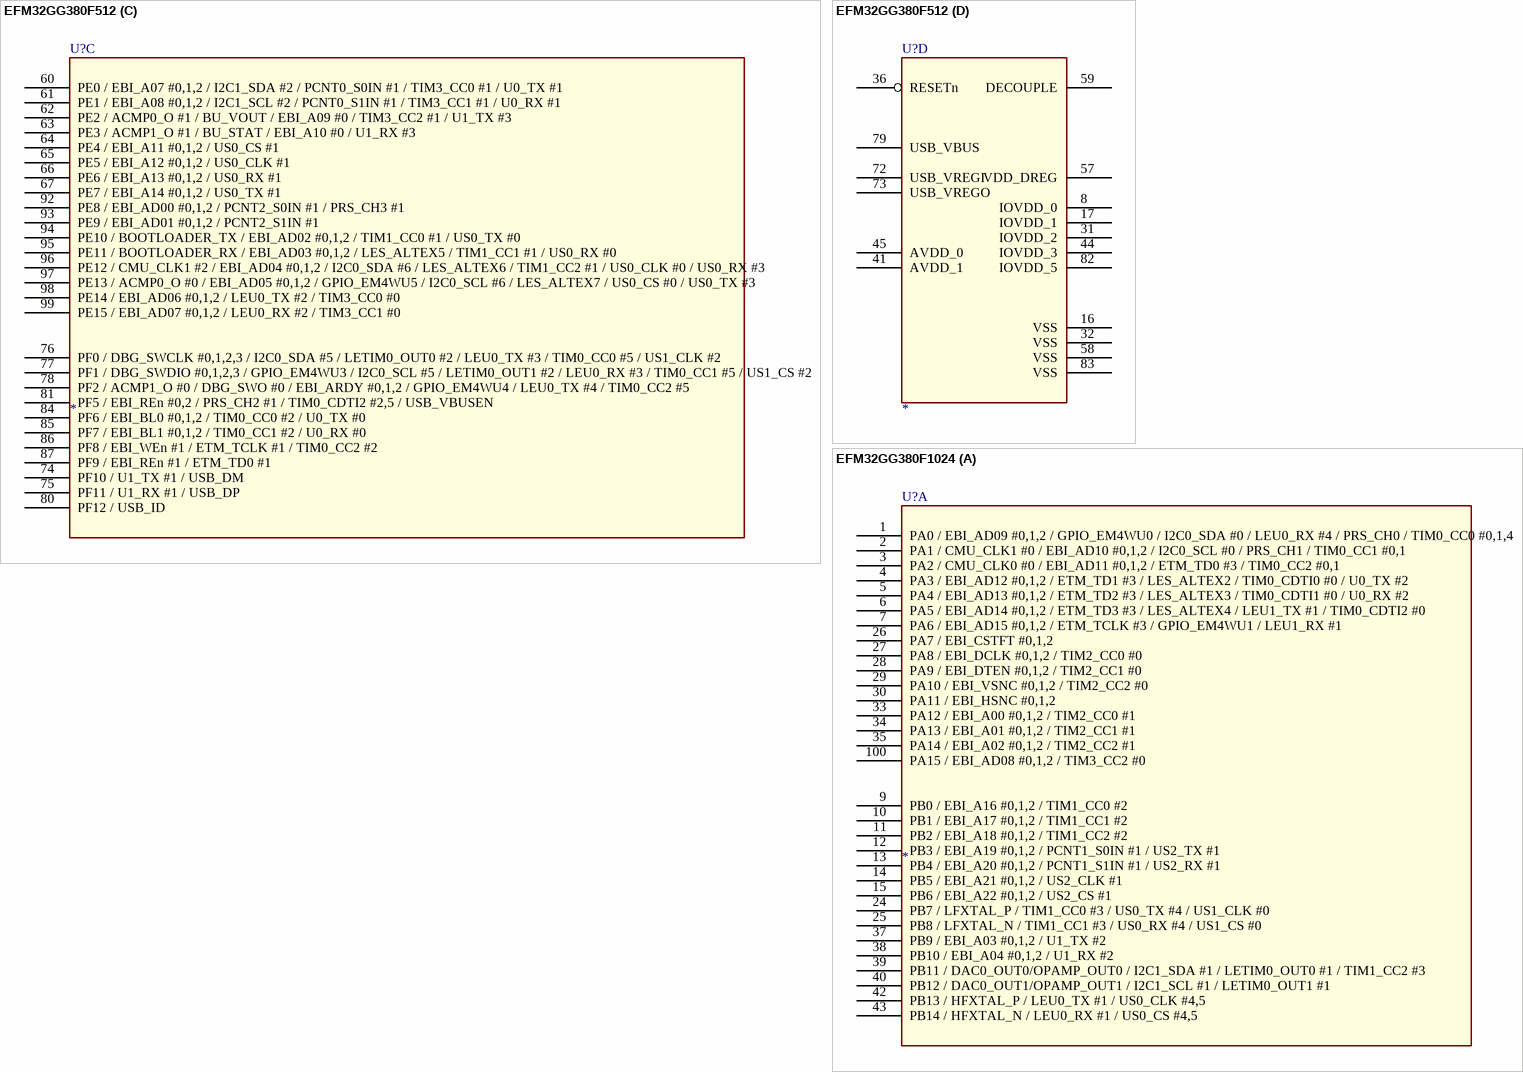
[diagram p14: symbols EFM32GG380F512 to EFM32GG380F1024]

## EFM32GG380F512
designator U?
part A pins: 1 PA0 / EBI_AD09 #0,1,2 / GPIO_EM4WU0 / I2C0_SDA #0 / LEU0_RX #4 / PRS_CH0 / TIM0_CC0 #0,1,4, 2 PA1 / CMU_CLK1 #0 / EBI_AD10 #0,1,2 / I2C0_SCL #0 / PRS_CH1 / TIM0_CC1 #0,1, 3 PA2 / CMU_CLK0 #0 / EBI_AD11 #0,1,2 / ETM_TD0 #3 / TIM0_CC2 #0,1, 4 PA3 / EBI_AD12 #0,1,2 / ETM_TD1 #3 / LES_ALTEX2 / TIM0_CDTI0 #0 / U0_TX #2, 5 PA4 / EBI_AD13 #0,1,2 / ETM_TD2 #3 / LES_ALTEX3 / TIM0_CDTI1 #0 / U0_RX #2, 6 PA5 / EBI_AD14 #0,1,2 / ETM_TD3 #3 / LES_ALTEX4 / LEU1_TX #1 / TIM0_CDTI2 #0, 7 PA6 / EBI_AD15 #0,1,2 / ETM_TCLK #3 / GPIO_EM4WU1 / LEU1_RX #1, 9 PB0 / EBI_A16 #0,1,2 / TIM1_CC0 #2, 10 PB1 / EBI_A17 #0,1,2 / TIM1_CC1 #2, 11 PB2 / EBI_A18 #0,1,2 / TIM1_CC2 #2, 12 PB3 / EBI_A19 #0,1,2 / PCNT1_S0IN #1 / US2_TX #1, 13 PB4 / EBI_A20 #0,1,2 / PCNT1_S1IN #1 / US2_RX #1, 14 PB5 / EBI_A21 #0,1,2 / US2_CLK #1, 15 PB6 / EBI_A22 #0,1,2 / US2_CS #1, 24 PB7 / LFXTAL_P / TIM1_CC0 #3 / US0_TX #4 / US1_CLK #0, 25 PB8 / LFXTAL_N / TIM1_CC1 #3 / US0_RX #4 / US1_CS #0, 26 PA7 / EBI_CSTFT #0,1,2, 27 PA8 / EBI_DCLK #0,1,2 / TIM2_CC0 #0, 28 PA9 / EBI_DTEN #0,1,2 / TIM2_CC1 #0, 29 PA10 / EBI_VSNC #0,1,2 / TIM2_CC2 #0, 30 PA11 / EBI_HSNC #0,1,2, 33 PA12 / EBI_A00 #0,1,2 / TIM2_CC0 #1, 34 PA13 / EBI_A01 #0,1,2 / TIM2_CC1 #1, 35 PA14 / EBI_A02 #0,1,2 / TIM2_CC2 #1, 37 PB9 / EBI_A03 #0,1,2 / U1_TX #2, 38 PB10 / EBI_A04 #0,1,2 / U1_RX #2, 39 PB11 / DAC0_OUT0/OPAMP_OUT0 / I2C1_SDA #1 / LETIM0_OUT0 #1 / TIM1_CC2 #3, 40 PB12 / DAC0_OUT1/OPAMP_OUT1 / I2C1_SCL #1 / LETIM0_OUT1 #1, 42 PB13 / HFXTAL_P / LEU0_TX #1 / US0_CLK #4,5, 43 PB14 / HFXTAL_N / LEU0_RX #1 / US0_CS #4,5, 100 PA15 / EBI_AD08 #0,1,2 / TIM3_CC2 #0
part B pins: 18 PC0 / ACMP0_CH0 / DAC0_OUT0ALT/OPAMP_OUT0ALT #0 / EBI_A23 #0,1,2 / I2C0_SDA #4 / LES_CH0 / PCNT0_S0IN #2 / PRS_CH2 #0 / TIM0_CC1 #4 / US0_TX #5 / US1_TX #0, 19 PC1 / ACMP0_CH1 / DAC0_OUT0ALT/OPAMP_OUT0ALT #1 / EBI_A24 #0,1,2 / I2C0_SCL #4 / LES_CH1 / PCNT0_S1IN #2 / PRS_CH3 #0 / TIM0_CC2 #4 / US0_RX #5 / US1_RX #0, 20 PC2 / ACMP0_CH2 / DAC0_OUT0ALT/OPAMP_OUT0ALT #2 / EBI_A25 #0,1,2 / LES_CH2 / TIM0_CDTI0 #4 / US2_TX #0, 21 PC3 / ACMP0_CH3 / DAC0_OUT0ALT/OPAMP_OUT0ALT #3 / EBI_NANDREn #0,1,2 / LES_CH3 / TIM0_CDTI1 #4 / US2_RX #0, 22 PC4 / ACMP0_CH4 / DAC0_P0/OPAMP_P0 / EBI_A26 #0,1,2 / I2C1_SDA #0 / LES_CH4 / LETIM0_OUT0 #3 / PCNT1_S0IN #0 / TIM0_CDTI2 #4 / US2_CLK #0, 23 PC5 / ACMP0_CH5 / DAC0_N0/OPAMP_N0 / EBI_NANDWEn #0,1,2 / I2C1_SCL #0 / LES_CH5 / LETIM0_OUT1 #3 / PCNT1_S1IN #0 / US2_CS #0, 46 PD0 / ADC0_CH0 / DAC0_OUT0ALT/OPAMP_OUT0ALT #4 / DAC0_OUT2/OPAMP_OUT2 #1 / PCNT2_S0IN #0 / US1_TX #1, 47 PD1 / ADC0_CH1 / DAC0_OUT1ALT/OPAMP_OUT1ALT #4 / DBG_SWO #2 / PCNT2_S1IN #0 / TIM0_CC0 #3 / US1_RX #1, 48 PD2 / ADC0_CH2 / DBG_SWO #3 / EBI_A27 #0,1,2 / TIM0_CC1 #3 / US1_CLK #1 / USB_DMPU, 49 PD3 / ADC0_CH3 / DAC0_N2/OPAMP_N2 / ETM_TD1 #0,2 / TIM0_CC2 #3 / US1_CS #1, 50 PD4 / ADC0_CH4 / DAC0_P2/OPAMP_P2 / ETM_TD2 #0,2 / LEU0_TX #0, 51 PD5 / ADC0_CH5 / DAC0_OUT2/OPAMP_OUT2 #0 / ETM_TD3 #0,2 / LEU0_RX #0, 52 PD6 / ACMP0_O #2 / ADC0_CH6 / DAC0_P1/OPAMP_P1 / ETM_TD0 #0 / I2C0_SDA #1 / LES_ALTEX0 / LETIM0_OUT0 #0 / PCNT0_S0IN #3 / TIM1_CC0 #4 / US1_RX #2, 53 PD7 / ACMP1_O #2 / ADC0_CH7 / CMU_CLK0 #2 / DAC0_N1/OPAMP_N1 / ETM_TCLK #0 / I2C0_SCL #1 / LES_ALTEX1 / LETIM0_OUT1 #0 / PCNT0_S1IN #3 / TIM1_CC1 #4 / US1_TX #2, 54 PD8 / BU_VIN / CMU_CLK1 #1, 55 PC6 / ACMP0_CH6 / EBI_A05 #0,1,2 / ETM_TCLK #2 / I2C0_SDA #2 / LES_CH6 / LEU1_TX #0, 56 PC7 / ACMP0_CH7 / EBI_A06 #0,1,2 / ETM_TD0 #2 / I2C0_SCL #2 / LES_CH7 / LEU1_RX #0, 68 PC8 / ACMP1_CH0 / EBI_A15 #0,1,2 / LES_CH8 / TIM2_CC0 #2 / US0_CS #2, 69 PC9 / ACMP1_CH1 / EBI_A09 #1,2 / GPIO_EM4WU2 / LES_CH9 / TIM2_CC1 #2 / US0_CLK #2, 70 PC10 / ACMP1_CH2 / EBI_A10 #1,2 / LES_CH10 / TIM2_CC2 #2 / US0_RX #2, 71 PC11 / ACMP1_CH3 / EBI_ALE #1,2 / LES_CH11 / US0_TX #2, 88 PD9 / EBI_CS0 #0,1,2, 89 PD10 / EBI_CS1 #0,1,2, 90 PD11 / EBI_CS2 #0,1,2, 91 PD12 / EBI_CS3 #0,1,2
part C pins: 60 PE0 / EBI_A07 #0,1,2 / I2C1_SDA #2 / PCNT0_S0IN #1 / TIM3_CC0 #1 / U0_TX #1, 61 PE1 / EBI_A08 #0,1,2 / I2C1_SCL #2 / PCNT0_S1IN #1 / TIM3_CC1 #1 / U0_RX #1, 62 PE2 / ACMP0_O #1 / BU_VOUT / EBI_A09 #0 / TIM3_CC2 #1 / U1_TX #3, 63 PE3 / ACMP1_O #1 / BU_STAT / EBI_A10 #0 / U1_RX #3, 64 PE4 / EBI_A11 #0,1,2 / US0_CS #1, 65 PE5 / EBI_A12 #0,1,2 / US0_CLK #1, 66 PE6 / EBI_A13 #0,1,2 / US0_RX #1, 67 PE7 / EBI_A14 #0,1,2 / US0_TX #1, 74 PF10 / U1_TX #1 / USB_DM, 75 PF11 / U1_RX #1 / USB_DP, 76 PF0 / DBG_SWCLK #0,1,2,3 / I2C0_SDA #5 / LETIM0_OUT0 #2 / LEU0_TX #3 / TIM0_CC0 #5 / US1_CLK #2, 77 PF1 / DBG_SWDIO #0,1,2,3 / GPIO_EM4WU3 / I2C0_SCL #5 / LETIM0_OUT1 #2 / LEU0_RX #3 / TIM0_CC1 #5 / US1_CS #2, 78 PF2 / ACMP1_O #0 / DBG_SWO #0 / EBI_ARDY #0,1,2 / GPIO_EM4WU4 / LEU0_TX #4 / TIM0_CC2 #5, 80 PF12 / USB_ID, 81 PF5 / EBI_REn #0,2 / PRS_CH2 #1 / TIM0_CDTI2 #2,5 / USB_VBUSEN, 84 PF6 / EBI_BL0 #0,1,2 / TIM0_CC0 #2 / U0_TX #0, 85 PF7 / EBI_BL1 #0,1,2 / TIM0_CC1 #2 / U0_RX #0, 86 PF8 / EBI_WEn #1 / ETM_TCLK #1 / TIM0_CC2 #2, 87 PF9 / EBI_REn #1 / ETM_TD0 #1, 92 PE8 / EBI_AD00 #0,1,2 / PCNT2_S0IN #1 / PRS_CH3 #1, 93 PE9 / EBI_AD01 #0,1,2 / PCNT2_S1IN #1, 94 PE10 / BOOTLOADER_TX / EBI_AD02 #0,1,2 / TIM1_CC0 #1 / US0_TX #0, 95 PE11 / BOOTLOADER_RX / EBI_AD03 #0,1,2 / LES_ALTEX5 / TIM1_CC1 #1 / US0_RX #0, 96 PE12 / CMU_CLK1 #2 / EBI_AD04 #0,1,2 / I2C0_SDA #6 / LES_ALTEX6 / TIM1_CC2 #1 / US0_CLK #0 / US0_RX #3, 97 PE13 / ACMP0_O #0 / EBI_AD05 #0,1,2 / GPIO_EM4WU5 / I2C0_SCL #6 / LES_ALTEX7 / US0_CS #0 / US0_TX #3, 98 PE14 / EBI_AD06 #0,1,2 / LEU0_TX #2 / TIM3_CC0 #0, 99 PE15 / EBI_AD07 #0,1,2 / LEU0_RX #2 / TIM3_CC1 #0
part D pins: 8 IOVDD_0 (power), 16 VSS (power), 17 IOVDD_1 (power), 31 IOVDD_2 (power), 32 VSS (power), 36 RESETn, 41 AVDD_1 (power), 44 IOVDD_3 (power), 45 AVDD_0 (power), 57 VDD_DREG (power), 58 VSS (power), 59 DECOUPLE (power), 72 USB_VREGI (power), 73 USB_VREGO (power), 79 USB_VBUS (power), 82 IOVDD_5 (power), 83 VSS (power)

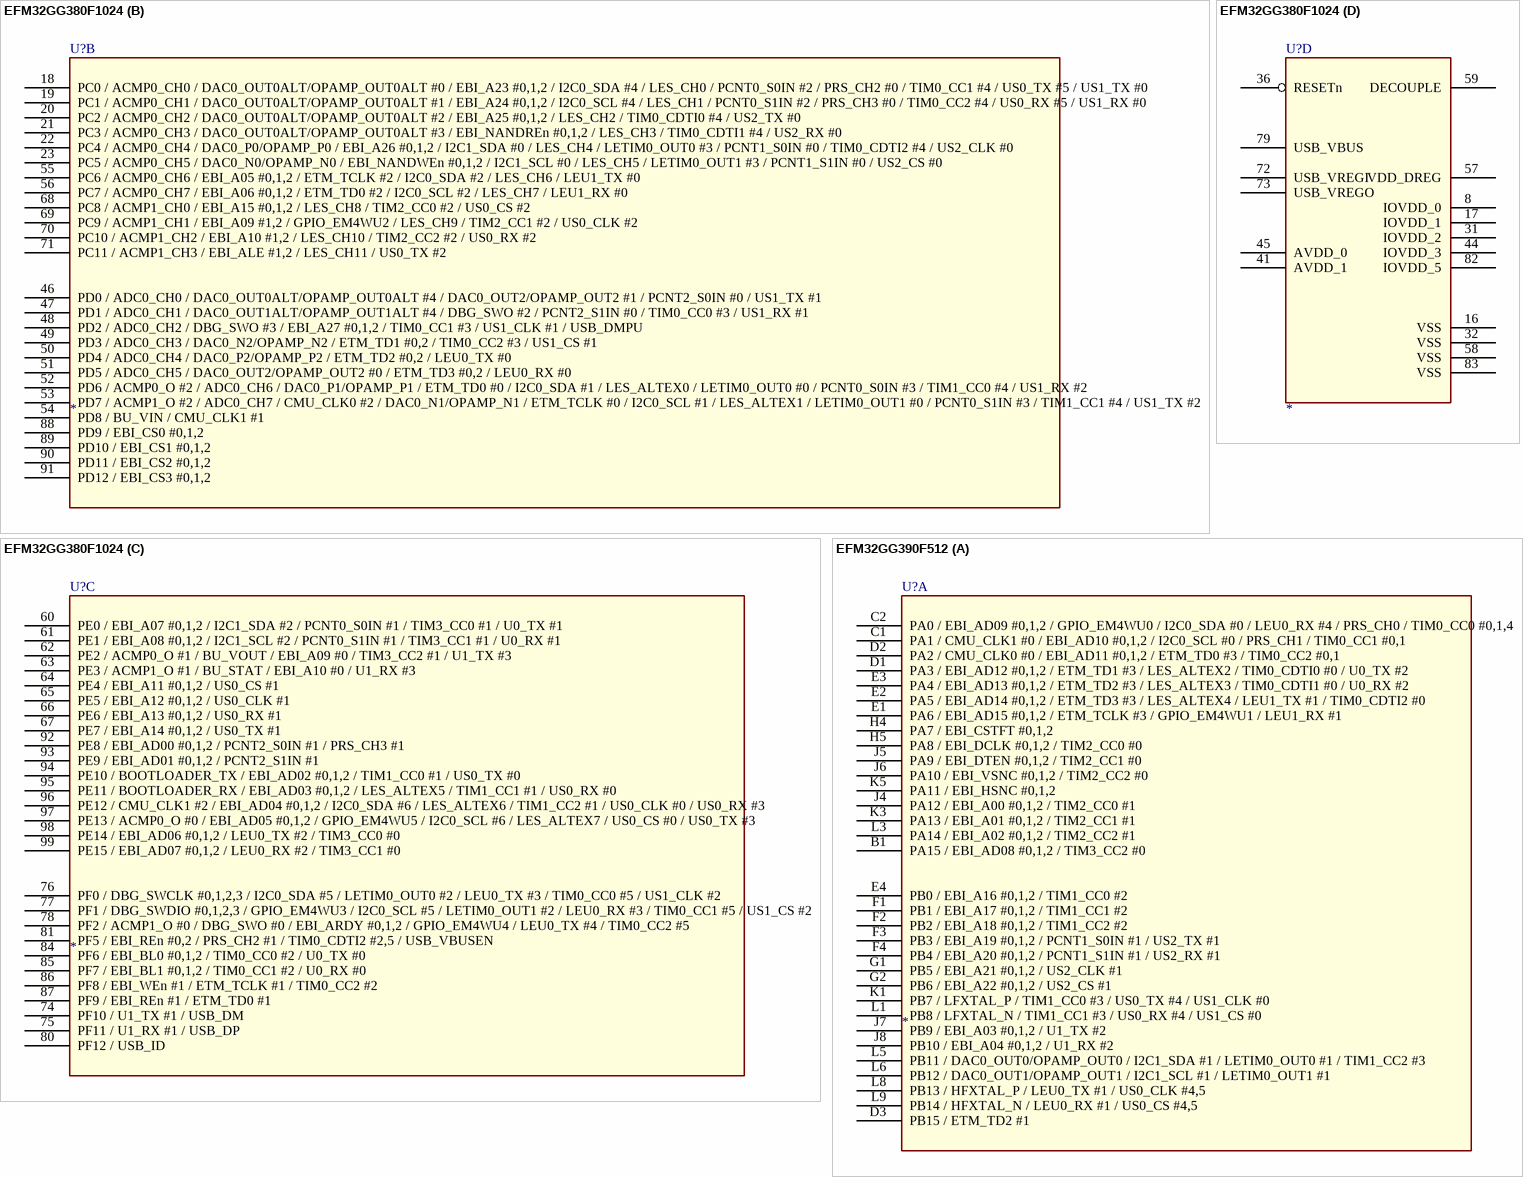
[diagram p15: symbols EFM32GG380F1024 to EFM32GG390F512]

## EFM32GG380F1024
designator U?
part A pins: 1 PA0 / EBI_AD09 #0,1,2 / GPIO_EM4WU0 / I2C0_SDA #0 / LEU0_RX #4 / PRS_CH0 / TIM0_CC0 #0,1,4, 2 PA1 / CMU_CLK1 #0 / EBI_AD10 #0,1,2 / I2C0_SCL #0 / PRS_CH1 / TIM0_CC1 #0,1, 3 PA2 / CMU_CLK0 #0 / EBI_AD11 #0,1,2 / ETM_TD0 #3 / TIM0_CC2 #0,1, 4 PA3 / EBI_AD12 #0,1,2 / ETM_TD1 #3 / LES_ALTEX2 / TIM0_CDTI0 #0 / U0_TX #2, 5 PA4 / EBI_AD13 #0,1,2 / ETM_TD2 #3 / LES_ALTEX3 / TIM0_CDTI1 #0 / U0_RX #2, 6 PA5 / EBI_AD14 #0,1,2 / ETM_TD3 #3 / LES_ALTEX4 / LEU1_TX #1 / TIM0_CDTI2 #0, 7 PA6 / EBI_AD15 #0,1,2 / ETM_TCLK #3 / GPIO_EM4WU1 / LEU1_RX #1, 9 PB0 / EBI_A16 #0,1,2 / TIM1_CC0 #2, 10 PB1 / EBI_A17 #0,1,2 / TIM1_CC1 #2, 11 PB2 / EBI_A18 #0,1,2 / TIM1_CC2 #2, 12 PB3 / EBI_A19 #0,1,2 / PCNT1_S0IN #1 / US2_TX #1, 13 PB4 / EBI_A20 #0,1,2 / PCNT1_S1IN #1 / US2_RX #1, 14 PB5 / EBI_A21 #0,1,2 / US2_CLK #1, 15 PB6 / EBI_A22 #0,1,2 / US2_CS #1, 24 PB7 / LFXTAL_P / TIM1_CC0 #3 / US0_TX #4 / US1_CLK #0, 25 PB8 / LFXTAL_N / TIM1_CC1 #3 / US0_RX #4 / US1_CS #0, 26 PA7 / EBI_CSTFT #0,1,2, 27 PA8 / EBI_DCLK #0,1,2 / TIM2_CC0 #0, 28 PA9 / EBI_DTEN #0,1,2 / TIM2_CC1 #0, 29 PA10 / EBI_VSNC #0,1,2 / TIM2_CC2 #0, 30 PA11 / EBI_HSNC #0,1,2, 33 PA12 / EBI_A00 #0,1,2 / TIM2_CC0 #1, 34 PA13 / EBI_A01 #0,1,2 / TIM2_CC1 #1, 35 PA14 / EBI_A02 #0,1,2 / TIM2_CC2 #1, 37 PB9 / EBI_A03 #0,1,2 / U1_TX #2, 38 PB10 / EBI_A04 #0,1,2 / U1_RX #2, 39 PB11 / DAC0_OUT0/OPAMP_OUT0 / I2C1_SDA #1 / LETIM0_OUT0 #1 / TIM1_CC2 #3, 40 PB12 / DAC0_OUT1/OPAMP_OUT1 / I2C1_SCL #1 / LETIM0_OUT1 #1, 42 PB13 / HFXTAL_P / LEU0_TX #1 / US0_CLK #4,5, 43 PB14 / HFXTAL_N / LEU0_RX #1 / US0_CS #4,5, 100 PA15 / EBI_AD08 #0,1,2 / TIM3_CC2 #0
part B pins: 18 PC0 / ACMP0_CH0 / DAC0_OUT0ALT/OPAMP_OUT0ALT #0 / EBI_A23 #0,1,2 / I2C0_SDA #4 / LES_CH0 / PCNT0_S0IN #2 / PRS_CH2 #0 / TIM0_CC1 #4 / US0_TX #5 / US1_TX #0, 19 PC1 / ACMP0_CH1 / DAC0_OUT0ALT/OPAMP_OUT0ALT #1 / EBI_A24 #0,1,2 / I2C0_SCL #4 / LES_CH1 / PCNT0_S1IN #2 / PRS_CH3 #0 / TIM0_CC2 #4 / US0_RX #5 / US1_RX #0, 20 PC2 / ACMP0_CH2 / DAC0_OUT0ALT/OPAMP_OUT0ALT #2 / EBI_A25 #0,1,2 / LES_CH2 / TIM0_CDTI0 #4 / US2_TX #0, 21 PC3 / ACMP0_CH3 / DAC0_OUT0ALT/OPAMP_OUT0ALT #3 / EBI_NANDREn #0,1,2 / LES_CH3 / TIM0_CDTI1 #4 / US2_RX #0, 22 PC4 / ACMP0_CH4 / DAC0_P0/OPAMP_P0 / EBI_A26 #0,1,2 / I2C1_SDA #0 / LES_CH4 / LETIM0_OUT0 #3 / PCNT1_S0IN #0 / TIM0_CDTI2 #4 / US2_CLK #0, 23 PC5 / ACMP0_CH5 / DAC0_N0/OPAMP_N0 / EBI_NANDWEn #0,1,2 / I2C1_SCL #0 / LES_CH5 / LETIM0_OUT1 #3 / PCNT1_S1IN #0 / US2_CS #0, 46 PD0 / ADC0_CH0 / DAC0_OUT0ALT/OPAMP_OUT0ALT #4 / DAC0_OUT2/OPAMP_OUT2 #1 / PCNT2_S0IN #0 / US1_TX #1, 47 PD1 / ADC0_CH1 / DAC0_OUT1ALT/OPAMP_OUT1ALT #4 / DBG_SWO #2 / PCNT2_S1IN #0 / TIM0_CC0 #3 / US1_RX #1, 48 PD2 / ADC0_CH2 / DBG_SWO #3 / EBI_A27 #0,1,2 / TIM0_CC1 #3 / US1_CLK #1 / USB_DMPU, 49 PD3 / ADC0_CH3 / DAC0_N2/OPAMP_N2 / ETM_TD1 #0,2 / TIM0_CC2 #3 / US1_CS #1, 50 PD4 / ADC0_CH4 / DAC0_P2/OPAMP_P2 / ETM_TD2 #0,2 / LEU0_TX #0, 51 PD5 / ADC0_CH5 / DAC0_OUT2/OPAMP_OUT2 #0 / ETM_TD3 #0,2 / LEU0_RX #0, 52 PD6 / ACMP0_O #2 / ADC0_CH6 / DAC0_P1/OPAMP_P1 / ETM_TD0 #0 / I2C0_SDA #1 / LES_ALTEX0 / LETIM0_OUT0 #0 / PCNT0_S0IN #3 / TIM1_CC0 #4 / US1_RX #2, 53 PD7 / ACMP1_O #2 / ADC0_CH7 / CMU_CLK0 #2 / DAC0_N1/OPAMP_N1 / ETM_TCLK #0 / I2C0_SCL #1 / LES_ALTEX1 / LETIM0_OUT1 #0 / PCNT0_S1IN #3 / TIM1_CC1 #4 / US1_TX #2, 54 PD8 / BU_VIN / CMU_CLK1 #1, 55 PC6 / ACMP0_CH6 / EBI_A05 #0,1,2 / ETM_TCLK #2 / I2C0_SDA #2 / LES_CH6 / LEU1_TX #0, 56 PC7 / ACMP0_CH7 / EBI_A06 #0,1,2 / ETM_TD0 #2 / I2C0_SCL #2 / LES_CH7 / LEU1_RX #0, 68 PC8 / ACMP1_CH0 / EBI_A15 #0,1,2 / LES_CH8 / TIM2_CC0 #2 / US0_CS #2, 69 PC9 / ACMP1_CH1 / EBI_A09 #1,2 / GPIO_EM4WU2 / LES_CH9 / TIM2_CC1 #2 / US0_CLK #2, 70 PC10 / ACMP1_CH2 / EBI_A10 #1,2 / LES_CH10 / TIM2_CC2 #2 / US0_RX #2, 71 PC11 / ACMP1_CH3 / EBI_ALE #1,2 / LES_CH11 / US0_TX #2, 88 PD9 / EBI_CS0 #0,1,2, 89 PD10 / EBI_CS1 #0,1,2, 90 PD11 / EBI_CS2 #0,1,2, 91 PD12 / EBI_CS3 #0,1,2
part C pins: 60 PE0 / EBI_A07 #0,1,2 / I2C1_SDA #2 / PCNT0_S0IN #1 / TIM3_CC0 #1 / U0_TX #1, 61 PE1 / EBI_A08 #0,1,2 / I2C1_SCL #2 / PCNT0_S1IN #1 / TIM3_CC1 #1 / U0_RX #1, 62 PE2 / ACMP0_O #1 / BU_VOUT / EBI_A09 #0 / TIM3_CC2 #1 / U1_TX #3, 63 PE3 / ACMP1_O #1 / BU_STAT / EBI_A10 #0 / U1_RX #3, 64 PE4 / EBI_A11 #0,1,2 / US0_CS #1, 65 PE5 / EBI_A12 #0,1,2 / US0_CLK #1, 66 PE6 / EBI_A13 #0,1,2 / US0_RX #1, 67 PE7 / EBI_A14 #0,1,2 / US0_TX #1, 74 PF10 / U1_TX #1 / USB_DM, 75 PF11 / U1_RX #1 / USB_DP, 76 PF0 / DBG_SWCLK #0,1,2,3 / I2C0_SDA #5 / LETIM0_OUT0 #2 / LEU0_TX #3 / TIM0_CC0 #5 / US1_CLK #2, 77 PF1 / DBG_SWDIO #0,1,2,3 / GPIO_EM4WU3 / I2C0_SCL #5 / LETIM0_OUT1 #2 / LEU0_RX #3 / TIM0_CC1 #5 / US1_CS #2, 78 PF2 / ACMP1_O #0 / DBG_SWO #0 / EBI_ARDY #0,1,2 / GPIO_EM4WU4 / LEU0_TX #4 / TIM0_CC2 #5, 80 PF12 / USB_ID, 81 PF5 / EBI_REn #0,2 / PRS_CH2 #1 / TIM0_CDTI2 #2,5 / USB_VBUSEN, 84 PF6 / EBI_BL0 #0,1,2 / TIM0_CC0 #2 / U0_TX #0, 85 PF7 / EBI_BL1 #0,1,2 / TIM0_CC1 #2 / U0_RX #0, 86 PF8 / EBI_WEn #1 / ETM_TCLK #1 / TIM0_CC2 #2, 87 PF9 / EBI_REn #1 / ETM_TD0 #1, 92 PE8 / EBI_AD00 #0,1,2 / PCNT2_S0IN #1 / PRS_CH3 #1, 93 PE9 / EBI_AD01 #0,1,2 / PCNT2_S1IN #1, 94 PE10 / BOOTLOADER_TX / EBI_AD02 #0,1,2 / TIM1_CC0 #1 / US0_TX #0, 95 PE11 / BOOTLOADER_RX / EBI_AD03 #0,1,2 / LES_ALTEX5 / TIM1_CC1 #1 / US0_RX #0, 96 PE12 / CMU_CLK1 #2 / EBI_AD04 #0,1,2 / I2C0_SDA #6 / LES_ALTEX6 / TIM1_CC2 #1 / US0_CLK #0 / US0_RX #3, 97 PE13 / ACMP0_O #0 / EBI_AD05 #0,1,2 / GPIO_EM4WU5 / I2C0_SCL #6 / LES_ALTEX7 / US0_CS #0 / US0_TX #3, 98 PE14 / EBI_AD06 #0,1,2 / LEU0_TX #2 / TIM3_CC0 #0, 99 PE15 / EBI_AD07 #0,1,2 / LEU0_RX #2 / TIM3_CC1 #0
part D pins: 8 IOVDD_0 (power), 16 VSS (power), 17 IOVDD_1 (power), 31 IOVDD_2 (power), 32 VSS (power), 36 RESETn, 41 AVDD_1 (power), 44 IOVDD_3 (power), 45 AVDD_0 (power), 57 VDD_DREG (power), 58 VSS (power), 59 DECOUPLE (power), 72 USB_VREGI (power), 73 USB_VREGO (power), 79 USB_VBUS (power), 82 IOVDD_5 (power), 83 VSS (power)

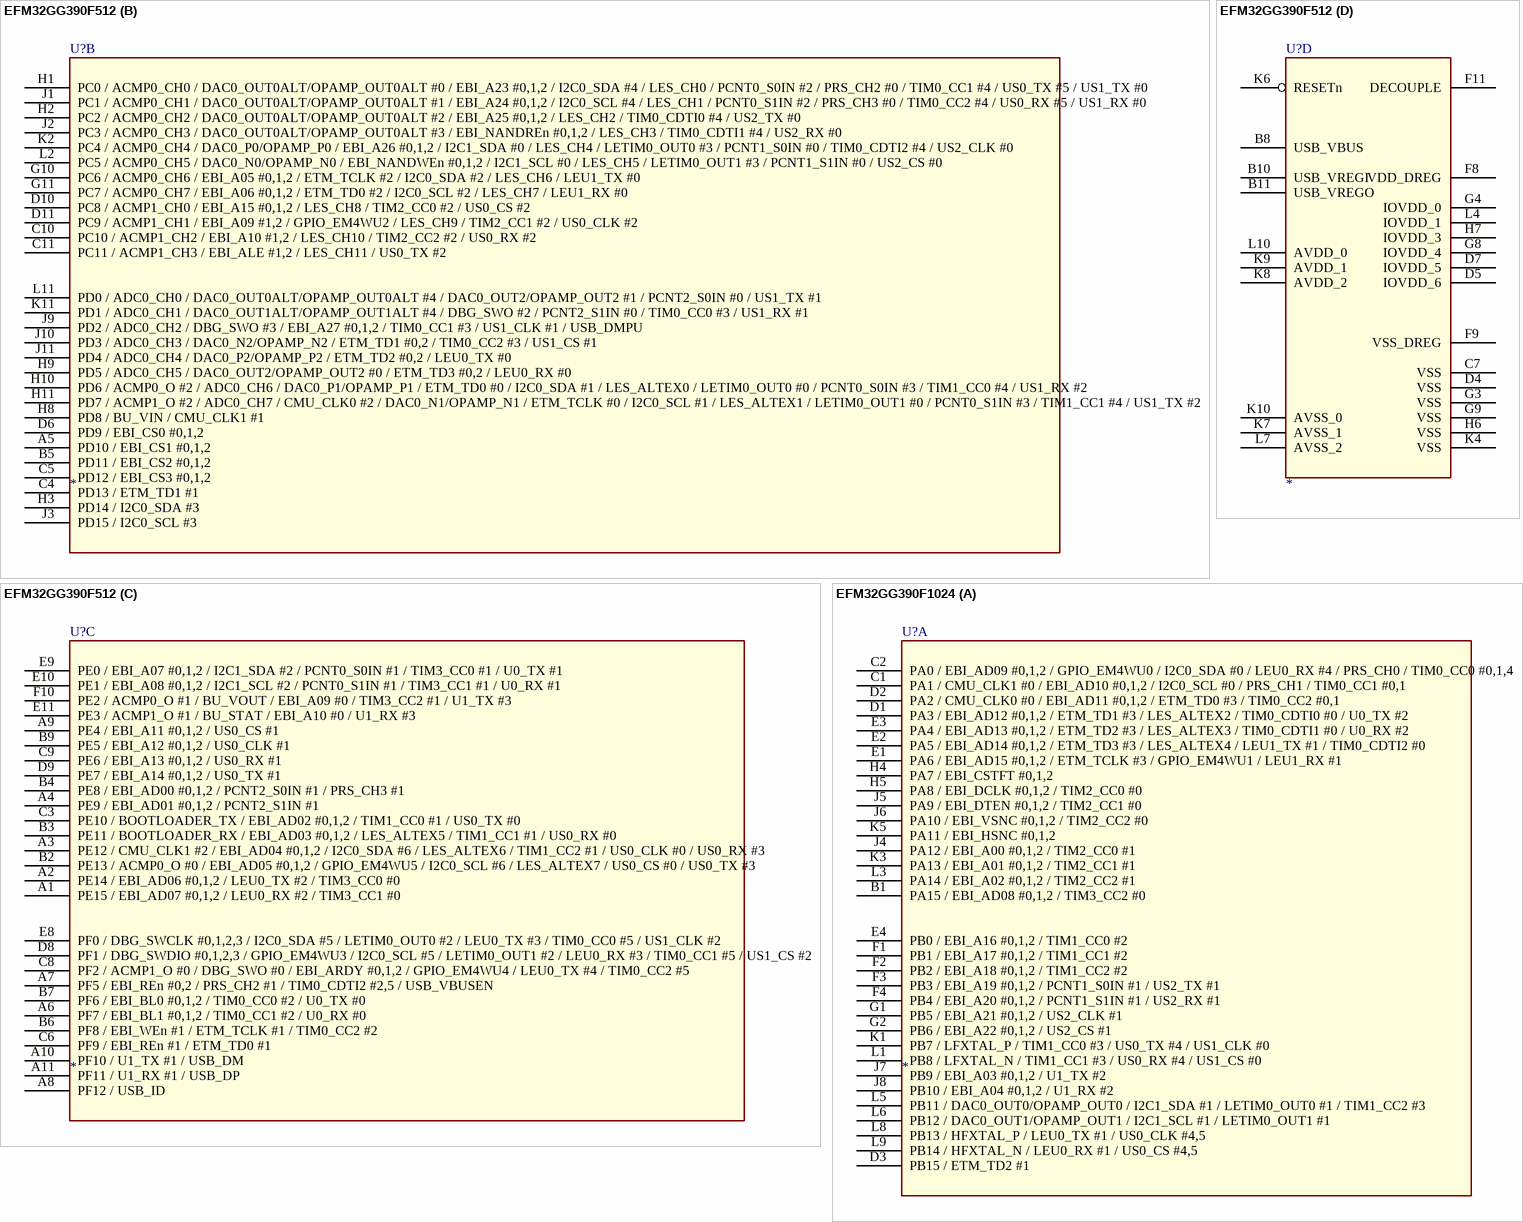
[diagram p16: symbols EFM32GG390F512 to EFM32GG390F1024]

## EFM32GG390F512
designator U?
part A pins: B1 PA15 / EBI_AD08 #0,1,2 / TIM3_CC2 #0, C1 PA1 / CMU_CLK1 #0 / EBI_AD10 #0,1,2 / I2C0_SCL #0 / PRS_CH1 / TIM0_CC1 #0,1, C2 PA0 / EBI_AD09 #0,1,2 / GPIO_EM4WU0 / I2C0_SDA #0 / LEU0_RX #4 / PRS_CH0 / TIM0_CC0 #0,1,4, D1 PA3 / EBI_AD12 #0,1,2 / ETM_TD1 #3 / LES_ALTEX2 / TIM0_CDTI0 #0 / U0_TX #2, D2 PA2 / CMU_CLK0 #0 / EBI_AD11 #0,1,2 / ETM_TD0 #3 / TIM0_CC2 #0,1, D3 PB15 / ETM_TD2 #1, E1 PA6 / EBI_AD15 #0,1,2 / ETM_TCLK #3 / GPIO_EM4WU1 / LEU1_RX #1, E2 PA5 / EBI_AD14 #0,1,2 / ETM_TD3 #3 / LES_ALTEX4 / LEU1_TX #1 / TIM0_CDTI2 #0, E3 PA4 / EBI_AD13 #0,1,2 / ETM_TD2 #3 / LES_ALTEX3 / TIM0_CDTI1 #0 / U0_RX #2, E4 PB0 / EBI_A16 #0,1,2 / TIM1_CC0 #2, F1 PB1 / EBI_A17 #0,1,2 / TIM1_CC1 #2, F2 PB2 / EBI_A18 #0,1,2 / TIM1_CC2 #2, F3 PB3 / EBI_A19 #0,1,2 / PCNT1_S0IN #1 / US2_TX #1, F4 PB4 / EBI_A20 #0,1,2 / PCNT1_S1IN #1 / US2_RX #1, G1 PB5 / EBI_A21 #0,1,2 / US2_CLK #1, G2 PB6 / EBI_A22 #0,1,2 / US2_CS #1, H4 PA7 / EBI_CSTFT #0,1,2, H5 PA8 / EBI_DCLK #0,1,2 / TIM2_CC0 #0, J4 PA12 / EBI_A00 #0,1,2 / TIM2_CC0 #1, J5 PA9 / EBI_DTEN #0,1,2 / TIM2_CC1 #0, J6 PA10 / EBI_VSNC #0,1,2 / TIM2_CC2 #0, J7 PB9 / EBI_A03 #0,1,2 / U1_TX #2, J8 PB10 / EBI_A04 #0,1,2 / U1_RX #2, K1 PB7 / LFXTAL_P / TIM1_CC0 #3 / US0_TX #4 / US1_CLK #0, K3 PA13 / EBI_A01 #0,1,2 / TIM2_CC1 #1, K5 PA11 / EBI_HSNC #0,1,2, L1 PB8 / LFXTAL_N / TIM1_CC1 #3 / US0_RX #4 / US1_CS #0, L3 PA14 / EBI_A02 #0,1,2 / TIM2_CC2 #1, L5 PB11 / DAC0_OUT0/OPAMP_OUT0 / I2C1_SDA #1 / LETIM0_OUT0 #1 / TIM1_CC2 #3, L6 PB12 / DAC0_OUT1/OPAMP_OUT1 / I2C1_SCL #1 / LETIM0_OUT1 #1, L8 PB13 / HFXTAL_P / LEU0_TX #1 / US0_CLK #4,5, L9 PB14 / HFXTAL_N / LEU0_RX #1 / US0_CS #4,5
part B pins: A5 PD10 / EBI_CS1 #0,1,2, B5 PD11 / EBI_CS2 #0,1,2, C4 PD13 / ETM_TD1 #1, C5 PD12 / EBI_CS3 #0,1,2, C10 PC10 / ACMP1_CH2 / EBI_A10 #1,2 / LES_CH10 / TIM2_CC2 #2 / US0_RX #2, C11 PC11 / ACMP1_CH3 / EBI_ALE #1,2 / LES_CH11 / US0_TX #2, D6 PD9 / EBI_CS0 #0,1,2, D10 PC8 / ACMP1_CH0 / EBI_A15 #0,1,2 / LES_CH8 / TIM2_CC0 #2 / US0_CS #2, D11 PC9 / ACMP1_CH1 / EBI_A09 #1,2 / GPIO_EM4WU2 / LES_CH9 / TIM2_CC1 #2 / US0_CLK #2, G10 PC6 / ACMP0_CH6 / EBI_A05 #0,1,2 / ETM_TCLK #2 / I2C0_SDA #2 / LES_CH6 / LEU1_TX #0, G11 PC7 / ACMP0_CH7 / EBI_A06 #0,1,2 / ETM_TD0 #2 / I2C0_SCL #2 / LES_CH7 / LEU1_RX #0, H1 PC0 / ACMP0_CH0 / DAC0_OUT0ALT/OPAMP_OUT0ALT #0 / EBI_A23 #0,1,2 / I2C0_SDA #4 / LES_CH0 / PCNT0_S0IN #2 / PRS_CH2 #0 / TIM0_CC1 #4 / US0_TX #5 / US1_TX #0, H2 PC2 / ACMP0_CH2 / DAC0_OUT0ALT/OPAMP_OUT0ALT #2 / EBI_A25 #0,1,2 / LES_CH2 / TIM0_CDTI0 #4 / US2_TX #0, H3 PD14 / I2C0_SDA #3, H8 PD8 / BU_VIN / CMU_CLK1 #1, H9 PD5 / ADC0_CH5 / DAC0_OUT2/OPAMP_OUT2 #0 / ETM_TD3 #0,2 / LEU0_RX #0, H10 PD6 / ACMP0_O #2 / ADC0_CH6 / DAC0_P1/OPAMP_P1 / ETM_TD0 #0 / I2C0_SDA #1 / LES_ALTEX0 / LETIM0_OUT0 #0 / PCNT0_S0IN #3 / TIM1_CC0 #4 / US1_RX #2, H11 PD7 / ACMP1_O #2 / ADC0_CH7 / CMU_CLK0 #2 / DAC0_N1/OPAMP_N1 / ETM_TCLK #0 / I2C0_SCL #1 / LES_ALTEX1 / LETIM0_OUT1 #0 / PCNT0_S1IN #3 / TIM1_CC1 #4 / US1_TX #2, J1 PC1 / ACMP0_CH1 / DAC0_OUT0ALT/OPAMP_OUT0ALT #1 / EBI_A24 #0,1,2 / I2C0_SCL #4 / LES_CH1 / PCNT0_S1IN #2 / PRS_CH3 #0 / TIM0_CC2 #4 / US0_RX #5 / US1_RX #0, J2 PC3 / ACMP0_CH3 / DAC0_OUT0ALT/OPAMP_OUT0ALT #3 / EBI_NANDREn #0,1,2 / LES_CH3 / TIM0_CDTI1 #4 / US2_RX #0, J3 PD15 / I2C0_SCL #3, J9 PD2 / ADC0_CH2 / DBG_SWO #3 / EBI_A27 #0,1,2 / TIM0_CC1 #3 / US1_CLK #1 / USB_DMPU, J10 PD3 / ADC0_CH3 / DAC0_N2/OPAMP_N2 / ETM_TD1 #0,2 / TIM0_CC2 #3 / US1_CS #1, J11 PD4 / ADC0_CH4 / DAC0_P2/OPAMP_P2 / ETM_TD2 #0,2 / LEU0_TX #0, K2 PC4 / ACMP0_CH4 / DAC0_P0/OPAMP_P0 / EBI_A26 #0,1,2 / I2C1_SDA #0 / LES_CH4 / LETIM0_OUT0 #3 / PCNT1_S0IN #0 / TIM0_CDTI2 #4 / US2_CLK #0, K11 PD1 / ADC0_CH1 / DAC0_OUT1ALT/OPAMP_OUT1ALT #4 / DBG_SWO #2 / PCNT2_S1IN #0 / TIM0_CC0 #3 / US1_RX #1, L2 PC5 / ACMP0_CH5 / DAC0_N0/OPAMP_N0 / EBI_NANDWEn #0,1,2 / I2C1_SCL #0 / LES_CH5 / LETIM0_OUT1 #3 / PCNT1_S1IN #0 / US2_CS #0, L11 PD0 / ADC0_CH0 / DAC0_OUT0ALT/OPAMP_OUT0ALT #4 / DAC0_OUT2/OPAMP_OUT2 #1 / PCNT2_S0IN #0 / US1_TX #1
part C pins: A1 PE15 / EBI_AD07 #0,1,2 / LEU0_RX #2 / TIM3_CC1 #0, A2 PE14 / EBI_AD06 #0,1,2 / LEU0_TX #2 / TIM3_CC0 #0, A3 PE12 / CMU_CLK1 #2 / EBI_AD04 #0,1,2 / I2C0_SDA #6 / LES_ALTEX6 / TIM1_CC2 #1 / US0_CLK #0 / US0_RX #3, A4 PE9 / EBI_AD01 #0,1,2 / PCNT2_S1IN #1, A6 PF7 / EBI_BL1 #0,1,2 / TIM0_CC1 #2 / U0_RX #0, A7 PF5 / EBI_REn #0,2 / PRS_CH2 #1 / TIM0_CDTI2 #2,5 / USB_VBUSEN, A8 PF12 / USB_ID, A9 PE4 / EBI_A11 #0,1,2 / US0_CS #1, A10 PF10 / U1_TX #1 / USB_DM, A11 PF11 / U1_RX #1 / USB_DP, B2 PE13 / ACMP0_O #0 / EBI_AD05 #0,1,2 / GPIO_EM4WU5 / I2C0_SCL #6 / LES_ALTEX7 / US0_CS #0 / US0_TX #3, B3 PE11 / BOOTLOADER_RX / EBI_AD03 #0,1,2 / LES_ALTEX5 / TIM1_CC1 #1 / US0_RX #0, B4 PE8 / EBI_AD00 #0,1,2 / PCNT2_S0IN #1 / PRS_CH3 #1, B6 PF8 / EBI_WEn #1 / ETM_TCLK #1 / TIM0_CC2 #2, B7 PF6 / EBI_BL0 #0,1,2 / TIM0_CC0 #2 / U0_TX #0, B9 PE5 / EBI_A12 #0,1,2 / US0_CLK #1, C3 PE10 / BOOTLOADER_TX / EBI_AD02 #0,1,2 / TIM1_CC0 #1 / US0_TX #0, C6 PF9 / EBI_REn #1 / ETM_TD0 #1, C8 PF2 / ACMP1_O #0 / DBG_SWO #0 / EBI_ARDY #0,1,2 / GPIO_EM4WU4 / LEU0_TX #4 / TIM0_CC2 #5, C9 PE6 / EBI_A13 #0,1,2 / US0_RX #1, D8 PF1 / DBG_SWDIO #0,1,2,3 / GPIO_EM4WU3 / I2C0_SCL #5 / LETIM0_OUT1 #2 / LEU0_RX #3 / TIM0_CC1 #5 / US1_CS #2, D9 PE7 / EBI_A14 #0,1,2 / US0_TX #1, E8 PF0 / DBG_SWCLK #0,1,2,3 / I2C0_SDA #5 / LETIM0_OUT0 #2 / LEU0_TX #3 / TIM0_CC0 #5 / US1_CLK #2, E9 PE0 / EBI_A07 #0,1,2 / I2C1_SDA #2 / PCNT0_S0IN #1 / TIM3_CC0 #1 / U0_TX #1, E10 PE1 / EBI_A08 #0,1,2 / I2C1_SCL #2 / PCNT0_S1IN #1 / TIM3_CC1 #1 / U0_RX #1, E11 PE3 / ACMP1_O #1 / BU_STAT / EBI_A10 #0 / U1_RX #3, F10 PE2 / ACMP0_O #1 / BU_VOUT / EBI_A09 #0 / TIM3_CC2 #1 / U1_TX #3
part D pins: B8 USB_VBUS (power), B10 USB_VREGI (power), B11 USB_VREGO (power), C7 VSS (power), D4 VSS (power), D5 IOVDD_6 (power), D7 IOVDD_5 (power), F8 VDD_DREG (power), F9 VSS_DREG (power), F11 DECOUPLE (power), G3 VSS (power), G4 IOVDD_0 (power), G8 IOVDD_4 (power), G9 VSS (power), H6 VSS (power), H7 IOVDD_3 (power), K4 VSS (power), K6 RESETn, K7 AVSS_1 (power), K8 AVDD_2 (power), K9 AVDD_1 (power), K10 AVSS_0 (power), L4 IOVDD_1 (power), L7 AVSS_2 (power), L10 AVDD_0 (power)

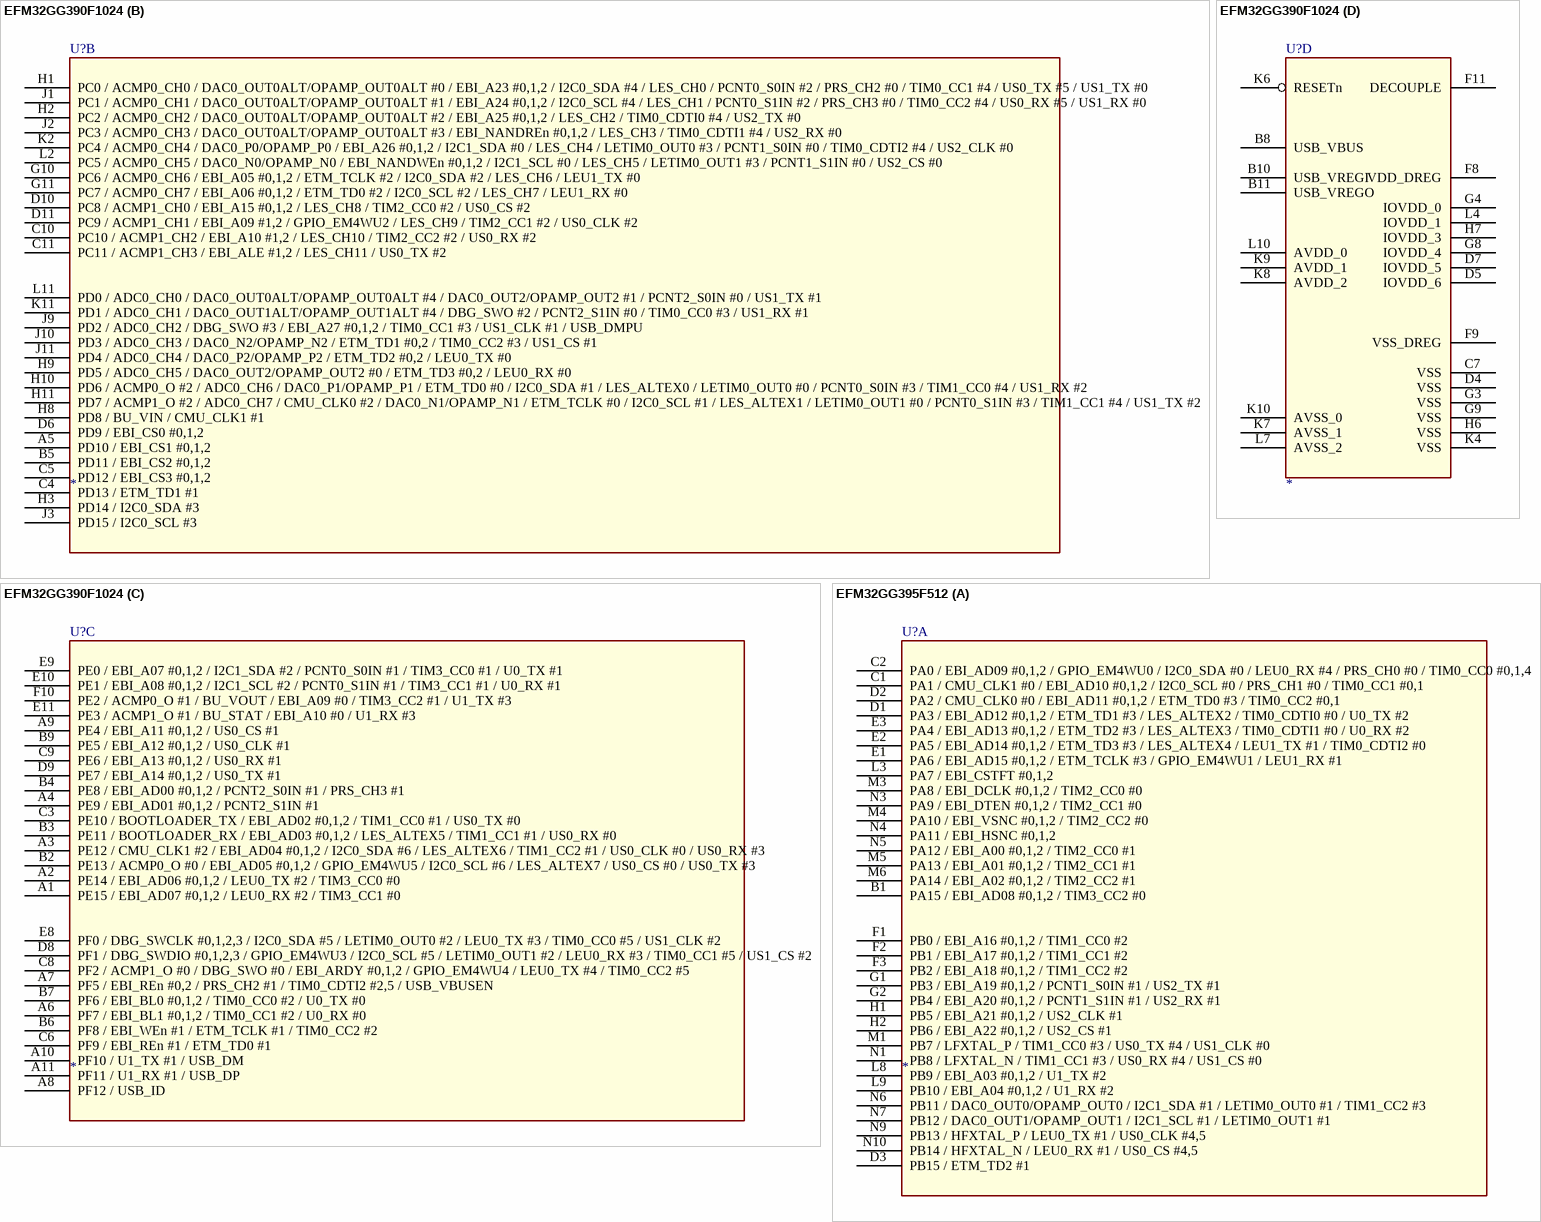
[diagram p17: symbols EFM32GG390F1024 to EFM32GG395F512]